# Altium schematic symbol library heromap.SchLib: 513 symbols (part 2 of 4)
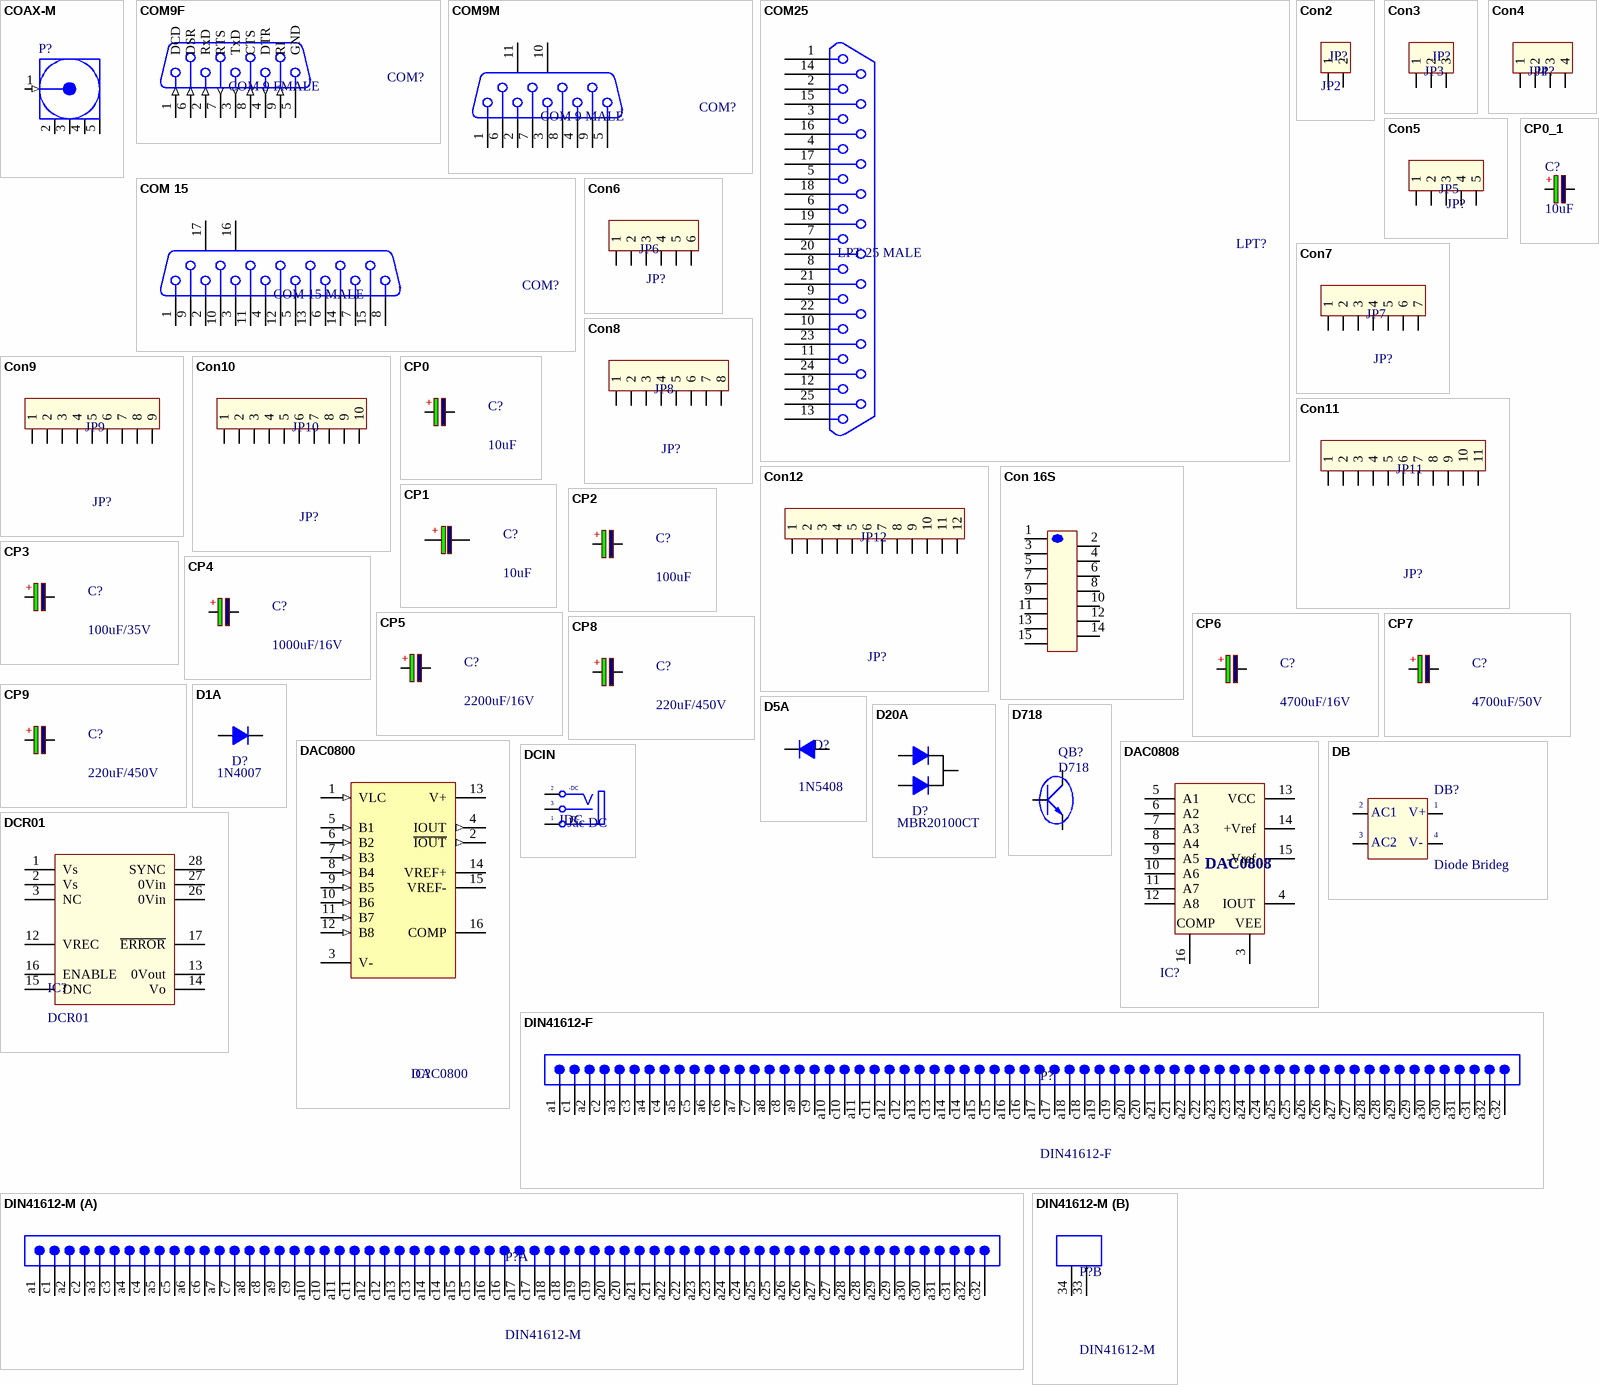
[diagram p20: symbols COAX-M to DIN41612-M]

## CP5
designator C?, comment 2200uF/16V
Cap 2200uF/16V - 1000uF/50V; Description 5: 47uF/200V - 22uF/350V - 400V - 10uF/450V; Description 1: 4700uF-6800uF/6,3V - 3300uF-4700uF/10V; Description 2: 2200uF-3300uF/16V - 470uF => 2200uF/25V; Description 3: 1000uF/35V-50V_470uF/63V_220uF>330uF/100V; Description 4: 47uF => 100uF/160V - 33uF-47uF/250V; Value: 2200uF/16V
footprint CP2/4 (Tu hoa 1000uF/16V/25V)
pins: 1, 2
text: +

## CP6
designator C?, comment 4700uF/16V
Cap 4700uF/16V - 2200uF/50V; Description 5: 100uF=>220uF/200V -100uF=>330uF/350V; Description 1: 10KuF=>22KuF/6,3V - 6800uF=>15KuF/10V; Description 2: 4700uF=>10KuF/16V - 3300uF => 6800uF/25V; Description 3: 2200uF=>3300uF/50V_1KuF=>2200uF/63V; Description 4: 470uF => 1KuF/100V - 220uF-470uF/160V; Value: 2200uF/16V; Description 6: 33uF=>100/350V-400V  -  22uF=>33uF/450V
footprint CP3/7 (Tu hoa 4700uF/25V)
pins: 1, 2
text: +

## CP7
designator C?, comment 4700uF/50V
Cap 4700uF/50V; Value: 4700uF/50V
footprint CP4/8.5 (Tu hoa 4700uF/50V)
pins: 1, 2
text: +

## CP8
designator C?, comment 220uF/450V
Cap 4700uF/50V; Value: 220uF/450V
footprint CP4/12 (Tu hoa 220uF/450V)
pins: 1, 2
text: +

## CP9
designator C?, comment 220uF/450V
Cap 10000uF/63V; Value: 220uF/450V
footprint CP4.5/19 (Tu hoa 10,000uF/63V)
pins: 1, 2
text: +

## D1A
designator D?, comment 1N4007
Diode 1A; Value: 1N4007
footprint D1A (Diode 1A, W 100mil, L 350mil)
footprint D2A (Diode 2A, W 150mil, L 450mil)
pins: 1 A, 2 K

## D5A
designator D?, comment 1N5408
Diode 5A; Value: 1N5408
footprint D5A (Diode 5A, W 200mil, L 550mil)
footprint D5AN (Diode 5A, W 200mil, L 250mil)
pins: 1 A, 2 K

## D20A
designator D?, comment MBR20100CT
Diode 20A,SCHOTTKY BARRIER  RECTIFIERS; Value: 1N4007
footprint QTO-220H1 (TO-220 - 1-2-3)
footprint D2A (Diode 2A, W 150mil, L 450mil)
pins: 1 A, 2 K, 3 A

## D718
designator QB?
Transistor Power Supply; Value: D718
footprint QTO-247 (TO-247 B688)
pins: 1 B, 2 C, 3 E

## DAC0800
designator IC?
8-Bit Digital-to-Analog Converter; Value: DAC0800
footprint TS5B_N (Footprint not found)
pins: 1 VLC (in), 2 ~{IOUT} (out), 3 V- (power), 4 IOUT (out), 5 B1 (in), 6 B2 (in), 7 B3 (in), 8 B4 (in), 9 B5 (in), 10 B6 (in), 11 B7 (in), 12 B8 (in), 13 V+ (power), 14 VREF+, 15 VREF-, 16 COMP

## DAC0808
designator IC?
8 Bits Digital Analog Convert; Value: DAC0808
footprint DIP16/W0.3 (16 PIN, W 300mil, Pin to pin 100mil)
pins: 2 GND (power) hidden to GND, 3 VEE, 4 IOUT, 5 A1, 6 A2, 7 A3, 8 A4, 9 A5, 10 A6, 11 A7, 12 A8, 13 VCC (power), 14 +Vref, 15 -Vref, 16 COMP
2 alternate drawings of the same symbol

## DB
designator DB?, comment Diode Brideg
DIODE BRIDGE; Value: Cau 1A
footprint CAU 1A (CAU 1A DET)
footprint CAU 5A (CAU 5A DET)
footprint Cau 10A (CAU 10A det)
footprint CAU 1AC (CAU 1A TRON)
footprint CAU 2A
pins: 1 +V OUT, 2 AC1, 3 AC2, 4 -V OUT
text: V+; V-

## DCIN
designator JDC, comment Jac DC
Jac DC input; Value: Jac DC
footprint DC-IN (Jac DC input)
pins: 1 T "Tip", 2 TN "Tip Normal (Break Contact)", 3 S (power) "Sleeve (Ground)"
text: -DC; +DC

## DCR01
designator IC?
Miniature, 1W Isolated  REGULATED DC/DC CONVERTERS
pins: 1 Vs, 2 Vs, 3 NC, 12 VREC, 13 0Vout, 14 Vo, 15 DNC, 16 ENABLE, 17 ~{ERROR}, 26 0Vin, 27 0Vin, 28 SYNC

## DIN41612-F
designator P?
Eurocard DIN 41612, Type C, 64 Position, Rows a+c, Performance level 1, Male, Lead 3.0 mm, Pitch 2.54 mm; DrillSize: Corresponds to nominal value.; Published: 6-Oct-2005; DatasheetDocument: 02-Jun-2003; PackageDocument: 03-Jul-2000; PackageReference: 0903164x922; Publisher: Altium Limited; ComponentLink1Description: Manufacturer Link; ComponentLink1URL: http://www.harting.com/; ComponentLink2Description: Packaging Specification; ComponentLink2URL: http://www.harkis.harting.com/_gds/pdf/TB_0903164x922_BL01_R27486.pdf
footprint DIN41612-F (Connector; DIN 41612, Type C, Thru-Hole; Rows a+c, 64 Position; Vertical; No Mounting Fixture)
signal-integrity model DIN 41612
pins: a1, a2, a3, a4, a5, a6, a7, a8, a9, a10, a11, a12, a13, a14, a15, a16, a17, a18, a19, a20, a21, a22, a23, a24, a25, a26, a27, a28, a29, a30, a31, a32, c1, c2, c3, c4, c5, c6, c7, c8, c9, c10, c11, c12, c13, c14, c15, c16, c17, c18, c19, c20, c21, c22, c23, c24, c25, c26, c27, c28, c29, c30, c31, c32

## DIN41612-M
designator P?
Eurocard DIN 41612, Type C, 62+2 Position, Rows a+c, Performance level 1, Male, Lead 3.0 mm, Pitch 2.54 mm; Note: Two leading contacts at positions a1 & a32.; DrillSize: Corresponds to nominal value.; Published: 6-Oct-2005; DatasheetDocument: 02-Jun-2003; PackageDocument: 18-May-2000; PackageReference: 0903164x951; Publisher: Altium Limited; ComponentLink1Description: Manufacturer Link; ComponentLink1URL: http://www.harting.com/; ComponentLink2Description: Packaging Specification; ComponentLink2URL: http://www.harkis.harting.com/_gds/pdf/TB_0903164x951_BL01_R27477.pdf
footprint DIN41612-M (Connector; DIN 41612, Type C, Thru-Hole; Rows a+c, 64 Position; Right Angle)
signal-integrity model DIN 41612
part A pins: a1, a2, a3, a4, a5, a6, a7, a8, a9, a10, a11, a12, a13, a14, a15, a16, a17, a18, a19, a20, a21, a22, a23, a24, a25, a26, a27, a28, a29, a30, a31, a32, c1, c2, c3, c4, c5, c6, c7, c8, c9, c10, c11, c12, c13, c14, c15, c16, c17, c18, c19, c20, c21, c22, c23, c24, c25, c26, c27, c28, c29, c30, c31, c32
part B pins: 33 MH1 "Mounting Fixture", 34 MH2 "Mounting Fixture"

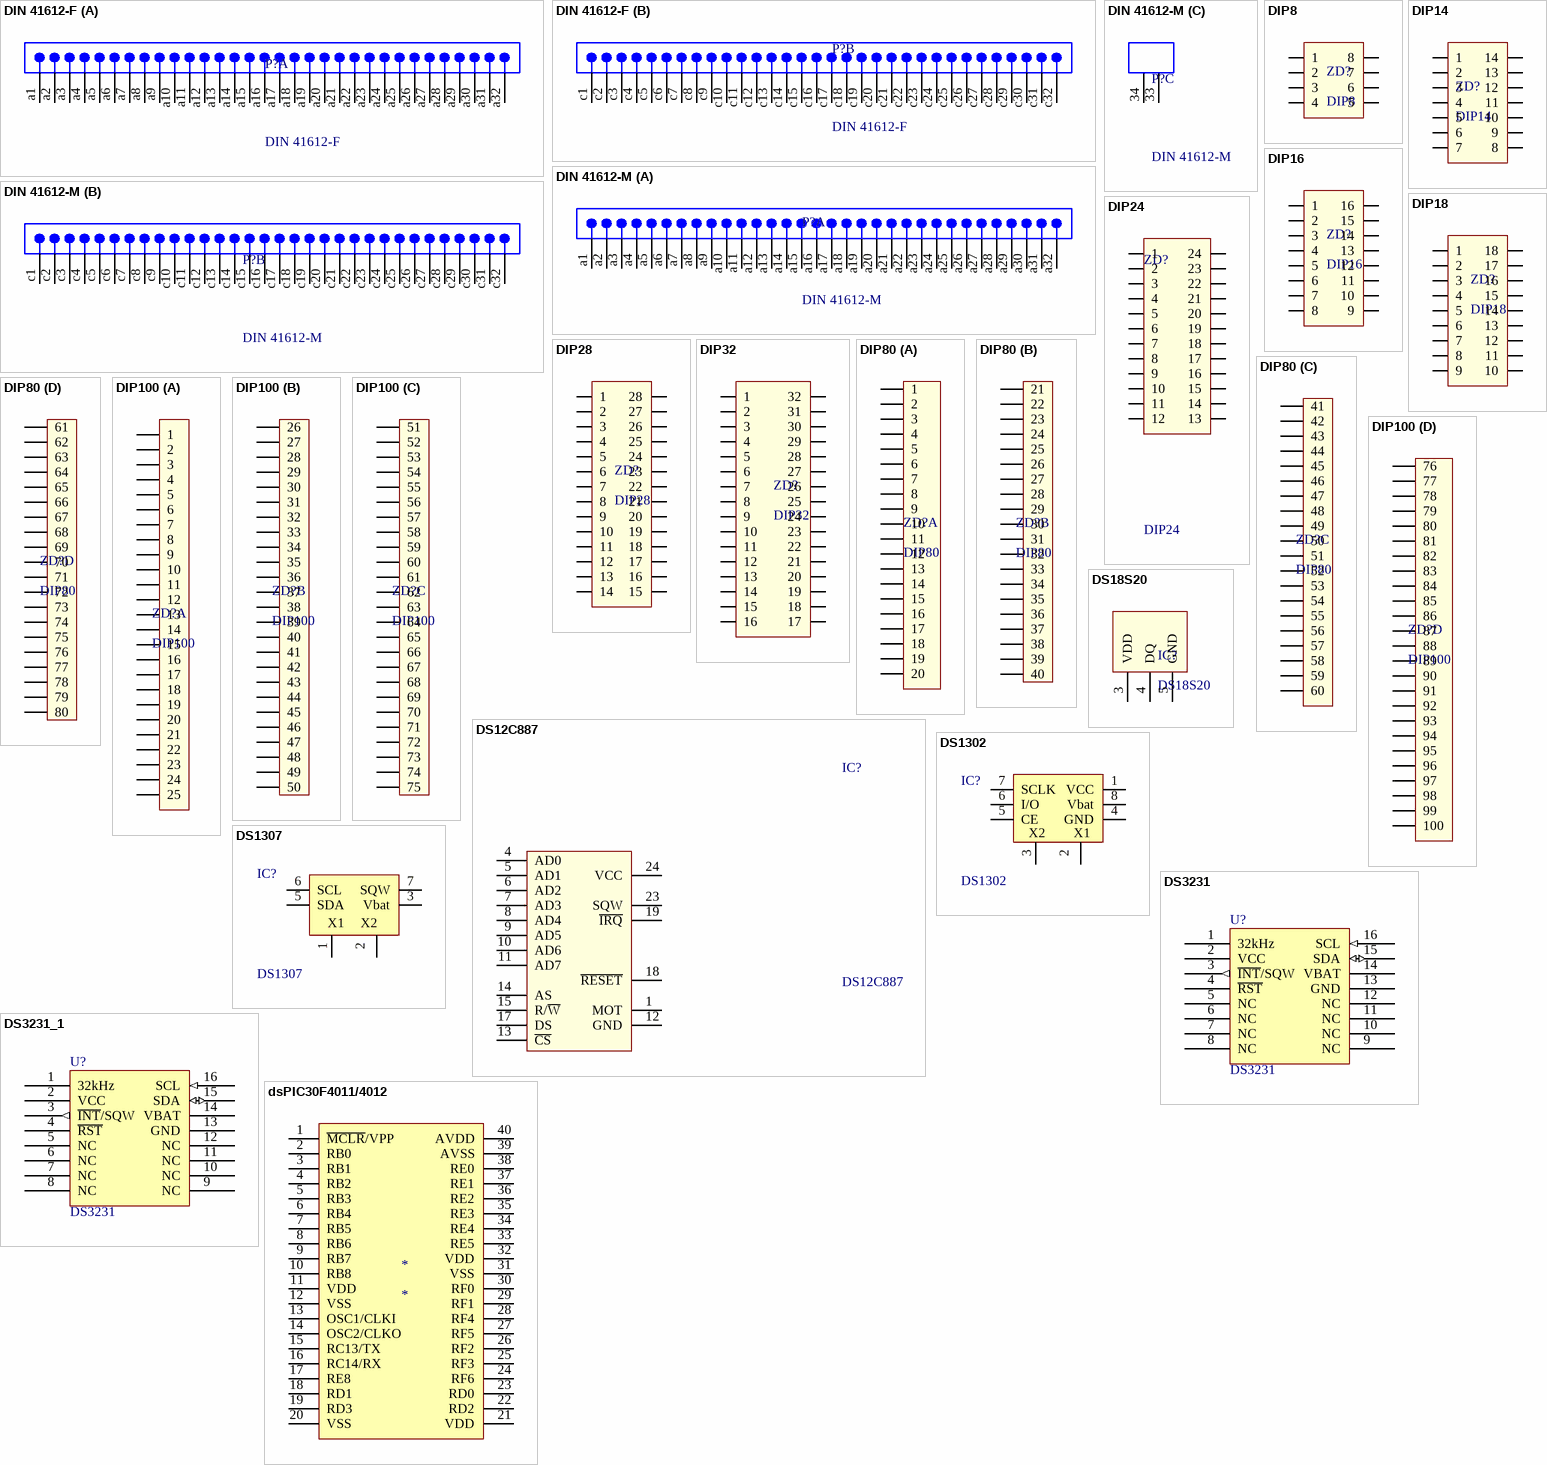
[diagram p6: symbols DIN 41612-F to dsPIC30F4011/4012]

## DIN 41612-F
designator P?
Eurocard DIN 41612, Type C, 64 Position, Rows a+c, Performance level 1, Male, Lead 3.0 mm, Pitch 2.54 mm; DrillSize: Corresponds to nominal value.; Published: 6-Oct-2005; DatasheetDocument: 02-Jun-2003; PackageDocument: 03-Jul-2000; PackageReference: 0903164x922; Publisher: Altium Limited; ComponentLink1Description: Manufacturer Link; ComponentLink1URL: http://www.harting.com/; ComponentLink2Description: Packaging Specification; ComponentLink2URL: http://www.harkis.harting.com/_gds/pdf/TB_0903164x922_BL01_R27486.pdf
footprint DIN41612-F (Connector; DIN 41612, Type C, Thru-Hole; Rows a+c, 64 Position; Vertical; No Mounting Fixture)
signal-integrity model DIN 41612
part A pins: a1, a2, a3, a4, a5, a6, a7, a8, a9, a10, a11, a12, a13, a14, a15, a16, a17, a18, a19, a20, a21, a22, a23, a24, a25, a26, a27, a28, a29, a30, a31, a32
part B pins: c1, c2, c3, c4, c5, c6, c7, c8, c9, c10, c11, c12, c13, c14, c15, c16, c17, c18, c19, c20, c21, c22, c23, c24, c25, c26, c27, c28, c29, c30, c31, c32

## DIN 41612-M
designator P?
Eurocard DIN 41612, Type C, 62+2 Position, Rows a+c, Performance level 1, Male, Lead 3.0 mm, Pitch 2.54 mm; Note: Two leading contacts at positions a1 & a32.; DrillSize: Corresponds to nominal value.; Published: 6-Oct-2005; DatasheetDocument: 02-Jun-2003; PackageDocument: 18-May-2000; PackageReference: 0903164x951; Publisher: Altium Limited; ComponentLink1Description: Manufacturer Link; ComponentLink1URL: http://www.harting.com/; ComponentLink2Description: Packaging Specification; ComponentLink2URL: http://www.harkis.harting.com/_gds/pdf/TB_0903164x951_BL01_R27477.pdf
footprint DIN41612-M (Connector; DIN 41612, Type C, Thru-Hole; Rows a+c, 64 Position; Right Angle)
signal-integrity model DIN 41612
part A pins: a1, a2, a3, a4, a5, a6, a7, a8, a9, a10, a11, a12, a13, a14, a15, a16, a17, a18, a19, a20, a21, a22, a23, a24, a25, a26, a27, a28, a29, a30, a31, a32
part B pins: c1, c2, c3, c4, c5, c6, c7, c8, c9, c10, c11, c12, c13, c14, c15, c16, c17, c18, c19, c20, c21, c22, c23, c24, c25, c26, c27, c28, c29, c30, c31, c32
part C pins: 33 MH1 "Mounting Fixture", 34 MH2 "Mounting Fixture"

## DIP8
designator ZD?
Value: DIP8
footprint DIP8/W0.3 (8 PIN, W 300mil, Pin to pin 100mil)
3D model DIP8 (PCB3D Model)
pins: 1, 2, 3, 4, 5, 6, 7, 8

## DIP14
designator ZD?
Value: DIP14
footprint DIP14/w0.3 (14PIN, W 300mil, Pin to pin 100mil)
3D model DIP14 (PCB3D Model)
pins: 1, 2, 3, 4, 5, 6, 7, 8, 9, 10, 11, 12, 13, 14

## DIP16
designator ZD?
Value: DIP16
footprint DIP16/W0.3 (16 PIN, W 300mil, Pin to pin 100mil)
3D model DIP16 (PCB3D Model)
pins: 1, 2, 3, 4, 5, 6, 7, 8, 9, 10, 11, 12, 13, 14, 15, 16

## DIP18
designator ZD?
Value: DIP18
footprint DIP18/W0.3 (18 PIN, W 300mil, Pin to pin 100mil)
3D model DIP18 (PCB3D Model)
pins: 1, 2, 3, 4, 5, 6, 7, 8, 9, 10, 11, 12, 13, 14, 15, 16, 17, 18

## DIP24
designator ZD?
Value: DIP24
footprint DIP24/W0.3 (DIP24/W.300, Pin to pin 100mil)
3D model DIP24 (PCB3D Model)
pins: 1, 2, 3, 4, 5, 6, 7, 8, 9, 10, 11, 12, 13, 14, 15, 16, 17, 18, 19, 20, 21, 22, 23, 24

## DIP28
designator ZD?
Value: DIP28
footprint DIP28/W0.3 (28 PIN, W 300mil, Pin to pin 100mil)
3D model DIP28 (PCB3D Model)
pins: 1, 2, 3, 4, 5, 6, 7, 8, 9, 10, 11, 12, 13, 14, 15, 16, 17, 18, 19, 20, 21, 22, 23, 24, 25, 26, 27, 28

## DIP32
designator ZD?
Value: ZIP32
footprint ZIP32 (32 PIN, W 900 mil , L 2200 mil , Push Pro FOR Chip)
3D model DIP32 (PCB3D Model)
pins: 1, 2, 3, 4, 5, 6, 7, 8, 9, 10, 11, 12, 13, 14, 15, 16, 17, 18, 19, 20, 21, 22, 23, 24, 25, 26, 27, 28, 29, 30, 31, 32

## DIP80
designator ZD?
Value: DIP80
footprint DIP80_2M (DIP80, P - P 200)
footprint TQFP-80 (Thin QFP, 80-Leads, Body 12x12mm, Pitch 0.5mm, IPC Low Density)
part A pins: 1, 2, 3, 4, 5, 6, 7, 8, 9, 10, 11, 12, 13, 14, 15, 16, 17, 18, 19, 20
part B pins: 21, 22, 23, 24, 25, 26, 27, 28, 29, 30, 31, 32, 33, 34, 35, 36, 37, 38, 39, 40
part C pins: 41, 42, 43, 44, 45, 46, 47, 48, 49, 50, 51, 52, 53, 54, 55, 56, 57, 58, 59, 60
part D pins: 61, 62, 63, 64, 65, 66, 67, 68, 69, 70, 71, 72, 73, 74, 75, 76, 77, 78, 79, 80

## DIP100
designator ZD?
Value: DIP100
footprint DIP100_2M (DIP100 - P-P 2mm)
footprint TQFP-100 (Footprint not found)
part A pins: 1, 2, 3, 4, 5, 6, 7, 8, 9, 10, 11, 12, 13, 14, 15, 16, 17, 18, 19, 20, 21, 22, 23, 24, 25
part B pins: 26, 27, 28, 29, 30, 31, 32, 33, 34, 35, 36, 37, 38, 39, 40, 41, 42, 43, 44, 45, 46, 47, 48, 49, 50
part C pins: 51, 52, 53, 54, 55, 56, 57, 58, 59, 60, 61, 62, 63, 64, 65, 66, 67, 68, 69, 70, 71, 72, 73, 74, 75
part D pins: 76, 77, 78, 79, 80, 81, 82, 83, 84, 85, 86, 87, 88, 89, 90, 91, 92, 93, 94, 95, 96, 97, 98, 99, 100

## DS12C887
designator IC?
Real Timer Parallel; Value: DS12C887
footprint DIP24/W0.6 (DIP24/W.600, Pin to pin 100mil)
3D model DIP24/W0.6 (PCB3D Model)
pins: 1 MOT, 4 AD0, 5 AD1, 6 AD2, 7 AD3, 8 AD4, 9 AD5, 10 AD6, 11 AD7, 12 GND, 13 ~{CS}, 14 AS, 15 R/~{W}, 17 DS, 18 ~{RESET}, 19 ~{IRQ}, 23 SQW, 24 VCC

## DS18S20
designator IC?
High Precision  1-Wire® Digital Thermometer
footprint DIP8/W0.3 (8 PIN, W 300mil, Pin to pin 100mil)
footprint DS18S20 (TO-92)
pins: 3 VDD, 4 DQ, 5 GND

## DS1302
designator IC?
Real Timer Serial - 2=>5V; Value: DS1307
footprint DIP8/W0.3 (8 PIN, W 300mil, Pin to pin 100mil)
3D model DIP8 (PCB3D Model)
footprint SO-8 (8-Pin Small Outline Integrated Circuit 1.27 mm Pitch, IPC Medium Density)
pins: 1 VCC, 2 X1, 3 X2, 4 GND, 5 CE, 6 I/O, 7 SCLK, 8 Vbat

## DS1307
designator IC?
Real Timer Serial; Value: DS1307
footprint DIP8/W0.3 (8 PIN, W 300mil, Pin to pin 100mil)
3D model DIP8 (PCB3D Model)
pins: 1 X1, 2 X2, 3 Vbat, 4 GND hidden to GND, 5 SDA, 6 SCL, 7 SQW, 8 VCC hidden to VCC

## DS3231
designator U?
footprint SL3016 (SOIC, 16-Leads, Body 10.3x7.5mm (max), Pitch 1.27mm, IPC Medium Density)
pins: 1 32kHz, 2 VCC, 3 ~{INT}/SQW (out), 4 ~{RST}, 5 NC, 6 NC, 7 NC, 8 NC, 9 NC, 10 NC, 11 NC, 12 NC, 13 GND, 14 VBAT, 15 SDA (io), 16 SCL (in)

## DS3231_1
designator U?, comment DS3231
footprint SL3016 (SOIC, 16-Leads, Body 10.3x7.5mm (max), Pitch 1.27mm, IPC Medium Density)
pins: 1 32kHz, 2 VCC, 3 ~{INT}/SQW (out), 4 ~{RST}, 5 NC, 6 NC, 7 NC, 8 NC, 9 NC, 10 NC, 11 NC, 12 NC, 13 GND, 14 VBAT, 15 SDA (io), 16 SCL (in)

## dsPIC30F4011/4012
designator *
footprint DIP40/W0.6 (40 PIN, W 600mil, Pin to pin 100mil)
pins: 1 ~{MCLR}/VPP, 2 RB0, 3 RB1, 4 RB2, 5 RB3, 6 RB4, 7 RB5, 8 RB6, 9 RB7, 10 RB8, 11 VDD, 12 VSS, 13 OSC1/CLKI, 14 OSC2/CLKO, 15 RC13/TX, 16 RC14/RX, 17 RE8, 18 RD1, 19 RD3, 20 VSS, 21 VDD, 22 RD2, 23 RD0, 24 RF6, 25 RF3, 26 RF2, 27 RF5, 28 RF4, 29 RF1, 30 RF0, 31 VSS, 32 VDD, 33 RE5, 34 RE4, 35 RE3, 36 RE2, 37 RE1, 38 RE0, 39 AVSS, 40 AVDD

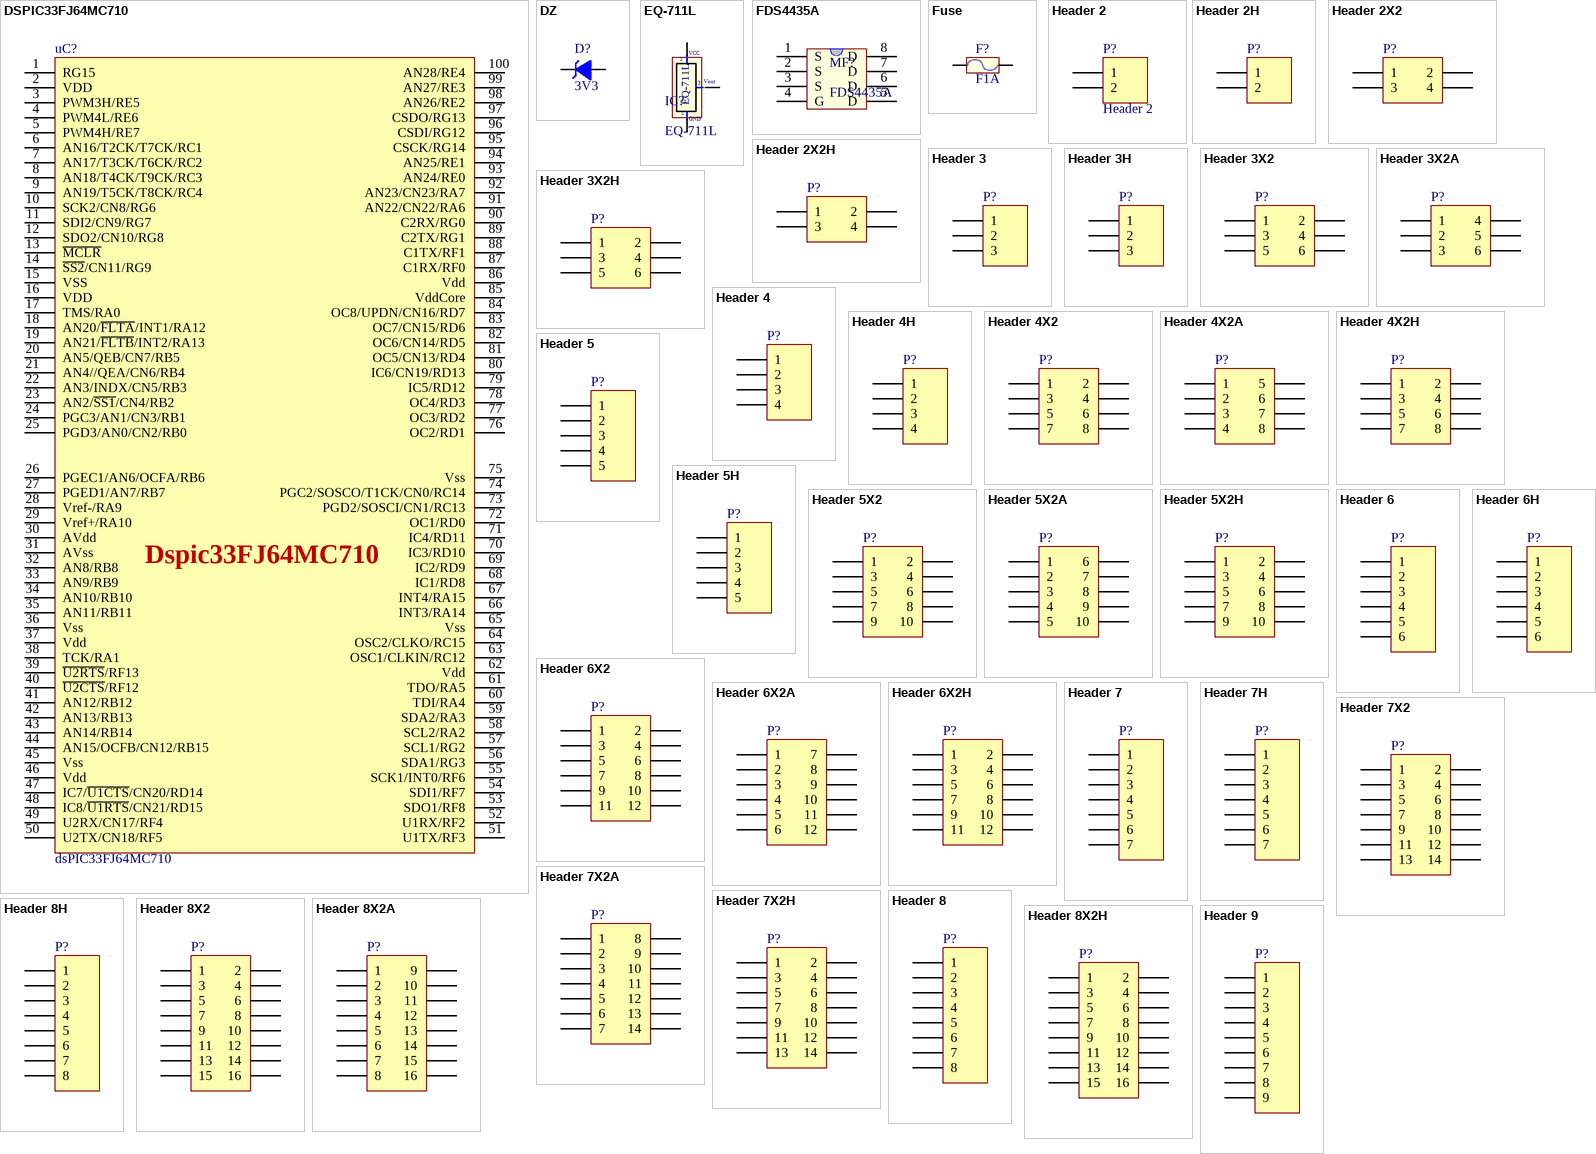
[diagram p7: symbols DSPIC33FJ64MC710 to Header 9]

## DSPIC33FJ64MC710
designator uC?, comment dsPIC33FJ64MC710
dsPIC33FJ64/128/256_MC710
footprint SQFP12X12-100(N)
footprint SQFP14X14-100(N) (Footprint not found)
footprint TQFP-100-12X12 (Shrink QFP, 100-Leads, Body 12x12mm, Pitch 0.4mm, IPC High Density)
pins: 1 RG15, 2 VDD, 3 PWM3H/RE5, 4 PWM4L/RE6, 5 PWM4H/RE7, 6 AN16/T2CK/T7CK/RC1, 7 AN17/T3CK/T6CK/RC2, 8 AN18/T4CK/T9CK/RC3, 9 AN19/T5CK/T8CK/RC4, 10 SCK2/CN8/RG6, 11 SDI2/CN9/RG7, 12 SDO2/CN10/RG8, 13 ~{MCLR}, 14 ~{SS2}/CN11/RG9, 15 VSS, 16 VDD, 17 TMS/RA0, 18 AN20/~{FLTA}/INT1/RA12, 19 AN21/~{FLTB}/INT2/RA13, 20 AN5/QEB/CN7/RB5, 21 AN4//QEA/CN6/RB4, 22 AN3/INDX/CN5/RB3, 23 AN2/~{SS1}/CN4/RB2, 24 PGC3/AN1/CN3/RB1, 25 PGD3/AN0/CN2/RB0, 26 PGEC1/AN6/OCFA/RB6, 27 PGED1/AN7/RB7, 28 Vref-/RA9, 29 Vref+/RA10, 30 AVdd, 31 AVss, 32 AN8/RB8, 33 AN9/RB9, 34 AN10/RB10, 35 AN11/RB11, 36 Vss, 37 Vdd, 38 TCK/RA1, 39 ~{U2RTS}/RF13, 40 ~{U2CTS}/RF12, 41 AN12/RB12, 42 AN13/RB13, 43 AN14/RB14, 44 AN15/OCFB/CN12/RB15, 45 Vss, 46 Vdd, 47 IC7/~{U1CTS}/CN20/RD14, 48 IC8/~{U1RTS}/CN21/RD15, 49 U2RX/CN17/RF4, 50 U2TX/CN18/RF5, 51 U1TX/RF3, 52 U1RX/RF2, 53 SDO1/RF8, 54 SDI1/RF7, 55 SCK1/INT0/RF6, 56 SDA1/RG3, 57 SCL1/RG2, 58 SCL2/RA2, 59 SDA2/RA3, 60 TDI/RA4, 61 TDO/RA5, 62 Vdd, 63 OSC1/CLKIN/RC12, 64 OSC2/CLKO/RC15, 65 Vss, 66 INT3/RA14, 67 INT4/RA15, 68 IC1/RD8, 69 IC2/RD9, 70 IC3/RD10, 71 IC4/RD11, 72 OC1/RD0, 73 PGD2/SOSCI/CN1/RC13, 74 PGC2/SOSCO/T1CK/CN0/RC14, 75 Vss, 76 OC2/RD1, 77 OC3/RD2, 78 OC4/RD3, 79 IC5/RD12, 80 IC6/CN19/RD13, 81 OC5/CN13/RD4, 82 OC6/CN14/RD5, 83 OC7/CN15/RD6, 84 OC8/UPDN/CN16/RD7, 85 VddCore, 86 Vdd, 87 C1RX/RF0, 88 C1TX/RF1, 89 C2TX/RG1, 90 C2RX/RG0, 91 AN22/CN22/RA6, 92 AN23/CN23/RA7, 93 AN24/RE0, 94 AN25/RE1, 95 CSCK/RG14, 96 CSDI/RG12, 97 CSDO/RG13, 98 AN26/RE2, 99 AN27/RE3, 100 AN28/RE4
text: Dspic33FJ64MC710

## DZ
designator D?, comment 3V3
Diode Zenner; Value: 3v3
footprint DZ0.5A (Diode Zenner, W 80mil, L 300mil)
footprint DZ5A (Diode 5A, W 200mil, L 550mil)
footprint DZ1A (Diode 1A, W 100mil, L 350mil)
footprint DZ2A (Diode 2A, W 150mil, L 450mil)
pins: 1 A, 2 K

## EQ-711L
designator IC?
Hybrid Linear Hall Effect Ics
footprint EQ-711L (TO-92)
pins: 1 VCC (power), 2 GND (power), 3 OUT
text: Vout

## FDS4435A
designator MF?
P-Channel Logic Level PowerTrench MOSFET; Value: FDS4435
footprint SO-8 (8-Pin Small Outline Integrated Circuit 1.27 mm Pitch, IPC Medium Density)
footprint DIP8/w0.3 (8 PIN, W 300mil, Pin to pin 100mil)
pins: 1 S, 2 S, 3 S, 4 G, 5 D, 6 D, 7 D, 8 D

## Fuse
designator F?, comment F1A
Fuse; Designed by: VanDungEvn; Value: Fuse
footprint Fuse (De Fuse)
footprint FUSE1 (De Fuse Box)
footprint FUSE2 (Fuse)
footprint PTC (PTC protec over curent)
pins: 1, 2

## Header 2
designator P?
Header, 2-Pin; LatestRevisionDate: 17-Jul-2002; LatestRevisionNote: Re-released for DXP Platform.; Publisher: Altium Limited
footprint HDR1X2 (Connector; Header; 2 Position)
pins: 1, 2

## Header 2H
designator P?
Header, 2-Pin, Right Angle; LatestRevisionDate: 17-Jul-2002; LatestRevisionNote: Re-released for DXP Platform.; Publisher: Altium Limited
footprint HDR1X2H (Connector; Header; 2 Position; Right Angle)
pins: 1, 2

## Header 2X2
designator P?
Header, 2-Pin, Dual row; LatestRevisionDate: 17-Jul-2002; LatestRevisionNote: Re-released for DXP Platform.; Publisher: Altium Limited
footprint HDR2X2 (Connector; Header; 2x2 Position)
pins: 1, 2, 3, 4

## Header 2X2H
designator P?
Header, 2-Pin, Dual row, Right Angle; LatestRevisionDate: 17-Jul-2002; LatestRevisionNote: Re-released for DXP Platform.; Publisher: Altium Limited
footprint HDR2X2H (Connector; Header; 2x2 Position; Right Angle)
pins: 1, 2, 3, 4

## Header 3
designator P?
Header, 3-Pin; LatestRevisionDate: 17-Jul-2002; LatestRevisionNote: Re-released for DXP Platform.; Publisher: Altium Limited
footprint HDR1X3 (Connector; Header; 3 Position)
pins: 1, 2, 3

## Header 3H
designator P?
Header, 3-Pin, Right Angle; LatestRevisionDate: 17-Jul-2002; LatestRevisionNote: Re-released for DXP Platform.; Publisher: Altium Limited
footprint HDR1X3H (Connector; Header; 3 Position; Right Angle)
pins: 1, 2, 3

## Header 3X2
designator P?
Header, 3-Pin, Dual row; LatestRevisionDate: 17-Jul-2002; LatestRevisionNote: Re-released for DXP Platform.; Publisher: Altium Limited
footprint HDR2X3 (Connector; Header; 3x2 Position)
pins: 1, 2, 3, 4, 5, 6

## Header 3X2A
designator P?
Header, 3-Pin, Dual row; LatestRevisionDate: 17-Jul-2002; LatestRevisionNote: Re-released for DXP Platform.; Publisher: Altium Limited
footprint HDR2X3_CEN (Connector; Header; 3x2 Position)
pins: 1, 2, 3, 4, 5, 6

## Header 3X2H
designator P?
Header, 3-Pin, Dual row, Right Angle; LatestRevisionDate: 17-Jul-2002; LatestRevisionNote: Re-released for DXP Platform.; Publisher: Altium Limited
footprint HDR2X3H (Connector; Header; 3x2 Position; Right Angle)
pins: 1, 2, 3, 4, 5, 6

## Header 4
designator P?
Header, 4-Pin; LatestRevisionDate: 17-Jul-2002; LatestRevisionNote: Re-released for DXP Platform.; Publisher: Altium Limited
footprint HDR1X4 (Connector; Header; 4 Position)
pins: 1, 2, 3, 4

## Header 4H
designator P?
Header, 4-Pin, Right Angle; LatestRevisionDate: 17-Jul-2002; LatestRevisionNote: Re-released for DXP Platform.; Publisher: Altium Limited
footprint HDR1X4H (Connector; Header; 4 Position; Right Angle)
pins: 1, 2, 3, 4

## Header 4X2
designator P?
Header, 4-Pin, Dual row; LatestRevisionDate: 17-Jul-2002; LatestRevisionNote: Re-released for DXP Platform.; Publisher: Altium Limited
footprint HDR2X4 (Connector; Header; 4x2 Position)
pins: 1, 2, 3, 4, 5, 6, 7, 8

## Header 4X2A
designator P?
Header, 4-Pin, Dual row; LatestRevisionDate: 17-Jul-2002; LatestRevisionNote: Re-released for DXP Platform.; Publisher: Altium Limited
footprint HDR2X4_CEN (Connector; Header; 4x2 Position)
pins: 1, 2, 3, 4, 5, 6, 7, 8

## Header 4X2H
designator P?
Header, 4-Pin, Dual row, Right Angle; LatestRevisionDate: 17-Jul-2002; LatestRevisionNote: Re-released for DXP Platform.; Publisher: Altium Limited
footprint HDR2X4H (Connector; Header; 4x2 Position; Right Angle)
pins: 1, 2, 3, 4, 5, 6, 7, 8

## Header 5
designator P?
Header, 5-Pin; LatestRevisionDate: 17-Jul-2002; LatestRevisionNote: Re-released for DXP Platform.; Publisher: Altium Limited
footprint HDR1X5 (Connector; Header; 5 Position)
pins: 1, 2, 3, 4, 5

## Header 5H
designator P?
Header, 5-Pin, Right Angle; LatestRevisionDate: 17-Jul-2002; LatestRevisionNote: Re-released for DXP Platform.; Publisher: Altium Limited
footprint HDR1X5H (Connector; Header; 5 Position; Right Angle)
pins: 1, 2, 3, 4, 5

## Header 5X2
designator P?
Header, 5-Pin, Dual row; LatestRevisionDate: 17-Jul-2002; LatestRevisionNote: Re-released for DXP Platform.; Publisher: Altium Limited
footprint HDR2X5 (Connector; Header; 5x2 Position)
pins: 1, 2, 3, 4, 5, 6, 7, 8, 9, 10

## Header 5X2A
designator P?
Header, 5-Pin, Dual row; LatestRevisionDate: 17-Jul-2002; LatestRevisionNote: Re-released for DXP Platform.; Publisher: Altium Limited
footprint HDR2X5_CEN (Connector; Header; 5x2 Position)
pins: 1, 2, 3, 4, 5, 6, 7, 8, 9, 10

## Header 5X2H
designator P?
Header, 5-Pin, Dual row, Right Angle; LatestRevisionDate: 17-Jul-2002; LatestRevisionNote: Re-released for DXP Platform.; Publisher: Altium Limited
footprint HDR2X5H (Connector; Header; 5x2 Position; Right Angle)
pins: 1, 2, 3, 4, 5, 6, 7, 8, 9, 10

## Header 6
designator P?
Header, 6-Pin; LatestRevisionDate: 17-Jul-2002; LatestRevisionNote: Re-released for DXP Platform.; Publisher: Altium Limited
footprint HDR1X6 (Connector; Header; 6 Position)
pins: 1, 2, 3, 4, 5, 6

## Header 6H
designator P?
Header, 6-Pin, Right Angle; LatestRevisionDate: 17-Jul-2002; LatestRevisionNote: Re-released for DXP Platform.; Publisher: Altium Limited
footprint HDR1X6H (Connector; Header; 6 Position; Right Angle)
pins: 1, 2, 3, 4, 5, 6

## Header 6X2
designator P?
Header, 6-Pin, Dual row; LatestRevisionDate: 17-Jul-2002; LatestRevisionNote: Re-released for DXP Platform.; Publisher: Altium Limited
footprint HDR2X6 (Connector; Header; 6x2 Position)
pins: 1, 2, 3, 4, 5, 6, 7, 8, 9, 10, 11, 12

## Header 6X2A
designator P?
Header, 6-Pin, Dual row; LatestRevisionDate: 17-Jul-2002; LatestRevisionNote: Re-released for DXP Platform.; Publisher: Altium Limited
footprint HDR2X6_CEN (Connector; Header; 6x2 Position)
pins: 1, 2, 3, 4, 5, 6, 7, 8, 9, 10, 11, 12

## Header 6X2H
designator P?
Header, 6-Pin, Dual row, Right Angle; LatestRevisionDate: 17-Jul-2002; LatestRevisionNote: Re-released for DXP Platform.; Publisher: Altium Limited
footprint HDR2X6H (Connector; Header; 6x2 Position; Right Angle)
pins: 1, 2, 3, 4, 5, 6, 7, 8, 9, 10, 11, 12

## Header 7
designator P?
Header, 7-Pin; LatestRevisionDate: 17-Jul-2002; LatestRevisionNote: Re-released for DXP Platform.; Publisher: Altium Limited
footprint HDR1X7 (Connector; Header; 7 Position)
pins: 1, 2, 3, 4, 5, 6, 7

## Header 7H
designator P?
Header, 7-Pin, Right Angle; LatestRevisionDate: 17-Jul-2002; LatestRevisionNote: Re-released for DXP Platform.; Publisher: Altium Limited
footprint HDR1X7H (Connector; Header; 7 Position; Right Angle)
pins: 1, 2, 3, 4, 5, 6, 7

## Header 7X2
designator P?
Header, 7-Pin, Dual row; LatestRevisionDate: 17-Jul-2002; LatestRevisionNote: Re-released for DXP Platform.; Publisher: Altium Limited
footprint HDR2X7 (Connector; Header; 7x2 Position)
pins: 1, 2, 3, 4, 5, 6, 7, 8, 9, 10, 11, 12, 13, 14

## Header 7X2A
designator P?
Header, 7-Pin, Dual row; LatestRevisionDate: 17-Jul-2002; LatestRevisionNote: Re-released for DXP Platform.; Publisher: Altium Limited
footprint HDR2X7_CEN (Connector; Header; 7x2 Position)
pins: 1, 2, 3, 4, 5, 6, 7, 8, 9, 10, 11, 12, 13, 14

## Header 7X2H
designator P?
Header, 7-Pin, Dual row, Right Angle; LatestRevisionDate: 17-Jul-2002; LatestRevisionNote: Re-released for DXP Platform.; Publisher: Altium Limited
footprint HDR2X7H (Connector; Header; 7x2 Position; Right Angle)
pins: 1, 2, 3, 4, 5, 6, 7, 8, 9, 10, 11, 12, 13, 14

## Header 8
designator P?
Header, 8-Pin; LatestRevisionDate: 17-Jul-2002; LatestRevisionNote: Re-released for DXP Platform.; Publisher: Altium Limited
footprint HDR1X8 (Connector; Header; 8 Position)
pins: 1, 2, 3, 4, 5, 6, 7, 8

## Header 8H
designator P?
Header, 8-Pin, Right Angle; LatestRevisionDate: 17-Jul-2002; LatestRevisionNote: Re-released for DXP Platform.; Publisher: Altium Limited
footprint HDR1X8H (Connector; Header; 8 Position; Right Angle)
pins: 1, 2, 3, 4, 5, 6, 7, 8

## Header 8X2
designator P?
Header, 8-Pin, Dual row; LatestRevisionDate: 17-Jul-2002; LatestRevisionNote: Re-released for DXP Platform.; Publisher: Altium Limited
footprint HDR2X8 (Connector; Header; 8x2 Position)
pins: 1, 2, 3, 4, 5, 6, 7, 8, 9, 10, 11, 12, 13, 14, 15, 16

## Header 8X2A
designator P?
Header, 8-Pin, Dual row; LatestRevisionDate: 17-Jul-2002; LatestRevisionNote: Re-released for DXP Platform.; Publisher: Altium Limited
footprint HDR2X8_CEN (Connector; Header; 8x2 Position)
pins: 1, 2, 3, 4, 5, 6, 7, 8, 9, 10, 11, 12, 13, 14, 15, 16

## Header 8X2H
designator P?
Header, 8-Pin, Dual row, Right Angle; LatestRevisionDate: 17-Jul-2002; LatestRevisionNote: Re-released for DXP Platform.; Publisher: Altium Limited
footprint HDR2X8H (Connector; Header; 8x2 Position; Right Angle)
pins: 1, 2, 3, 4, 5, 6, 7, 8, 9, 10, 11, 12, 13, 14, 15, 16

## Header 9
designator P?
Header, 9-Pin; LatestRevisionDate: 17-Jul-2002; LatestRevisionNote: Re-released for DXP Platform.; Publisher: Altium Limited
footprint HDR1X9 (Connector; Header; 9 Position)
pins: 1, 2, 3, 4, 5, 6, 7, 8, 9

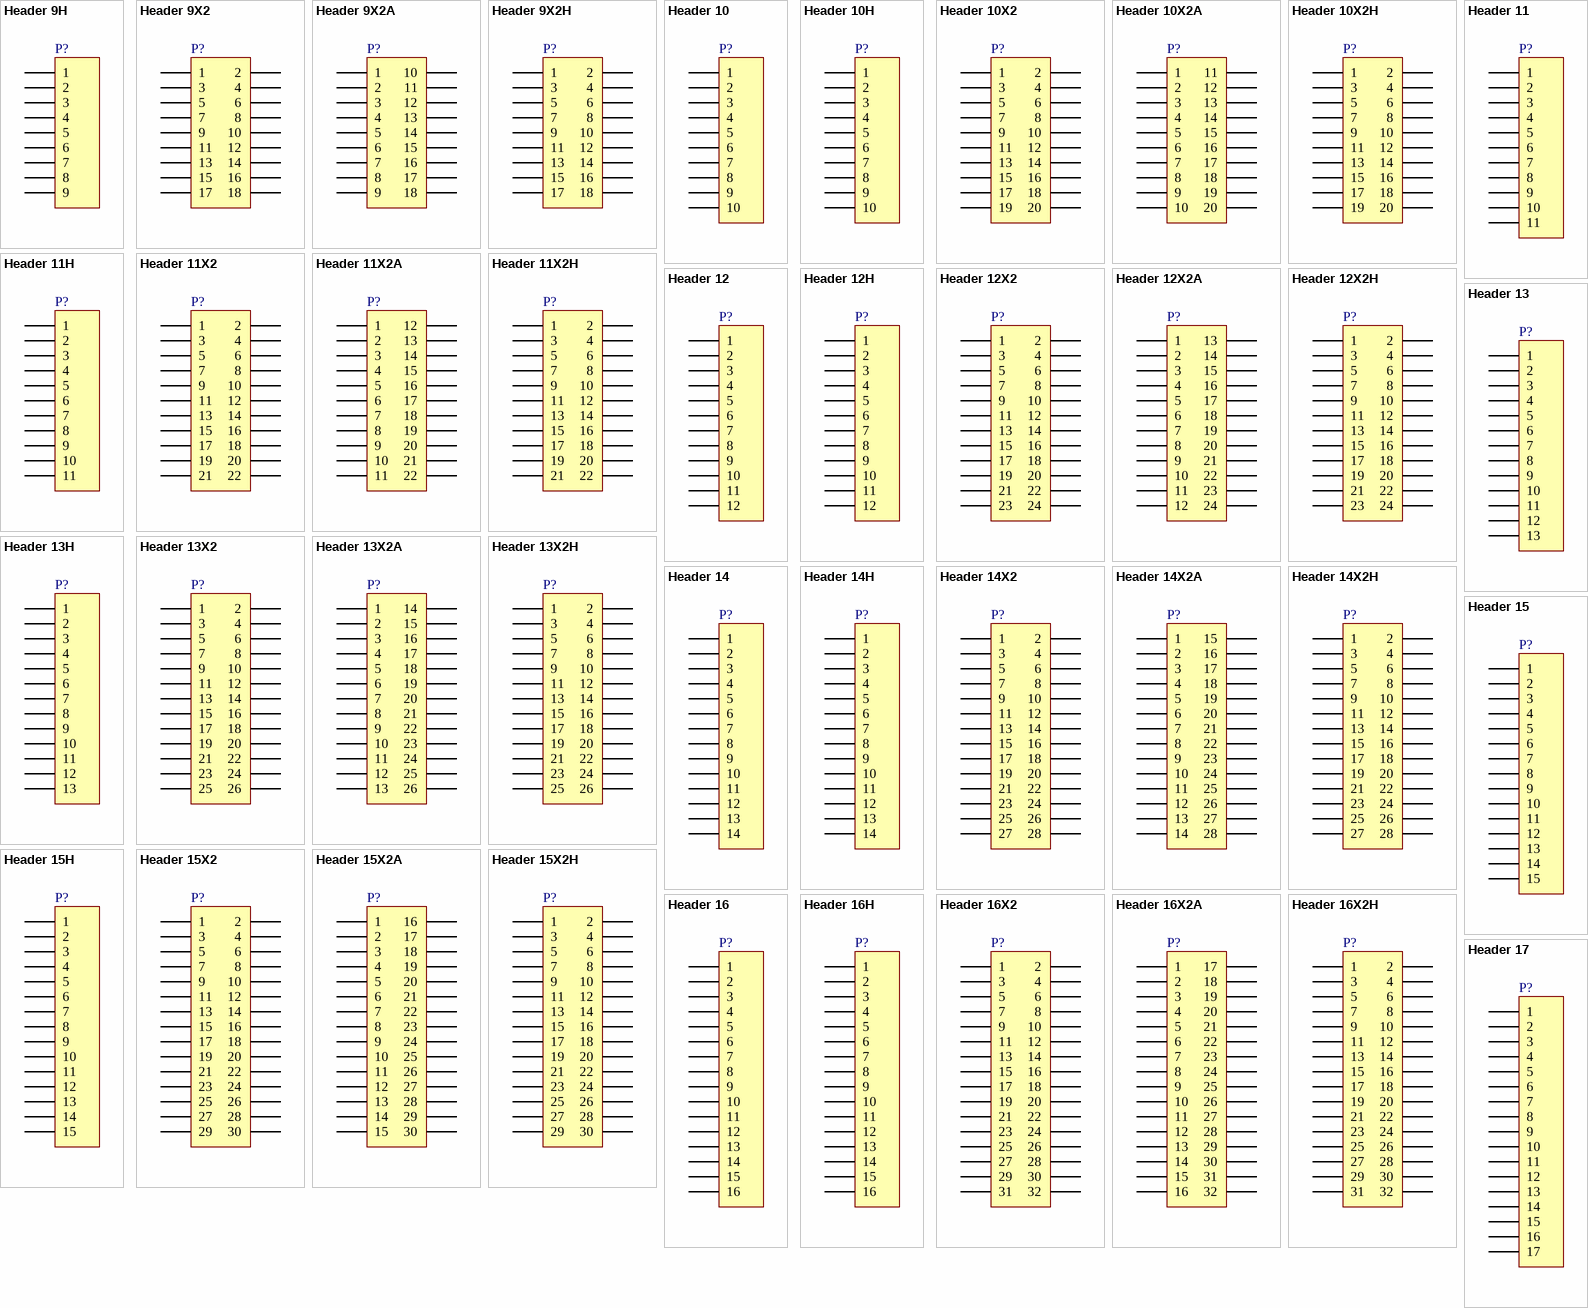
[diagram p8: symbols Header 9H to Header 17]

## Header 9H
designator P?
Header, 9-Pin, Right Angle; LatestRevisionDate: 17-Jul-2002; LatestRevisionNote: Re-released for DXP Platform.; Publisher: Altium Limited
footprint HDR1X9H (Connector; Header; 9 Position; Right Angle)
pins: 1, 2, 3, 4, 5, 6, 7, 8, 9

## Header 9X2
designator P?
Header, 9-Pin, Dual row; LatestRevisionDate: 17-Jul-2002; LatestRevisionNote: Re-released for DXP Platform.; Publisher: Altium Limited
footprint HDR2X9 (Connector; Header; 9x2 Position)
pins: 1, 2, 3, 4, 5, 6, 7, 8, 9, 10, 11, 12, 13, 14, 15, 16, 17, 18

## Header 9X2A
designator P?
Header, 9-Pin, Dual row; LatestRevisionDate: 17-Jul-2002; LatestRevisionNote: Re-released for DXP Platform.; Publisher: Altium Limited
footprint HDR2X9_CEN (Connector; Header; 9x2 Position)
pins: 1, 2, 3, 4, 5, 6, 7, 8, 9, 10, 11, 12, 13, 14, 15, 16, 17, 18

## Header 9X2H
designator P?
Header, 9-Pin, Dual row, Right Angle; LatestRevisionDate: 17-Jul-2002; LatestRevisionNote: Re-released for DXP Platform.; Publisher: Altium Limited
footprint HDR2X9H (Connector; Header; 9x2 Position; Right Angle)
pins: 1, 2, 3, 4, 5, 6, 7, 8, 9, 10, 11, 12, 13, 14, 15, 16, 17, 18

## Header 10
designator P?
Header, 10-Pin; LatestRevisionDate: 17-Jul-2002; LatestRevisionNote: Re-released for DXP Platform.; Publisher: Altium Limited
footprint HDR1X10 (Connector; Header; 10 Position)
pins: 1, 2, 3, 4, 5, 6, 7, 8, 9, 10

## Header 10H
designator P?
Header, 10-Pin, Right Angle; LatestRevisionDate: 17-Jul-2002; LatestRevisionNote: Re-released for DXP Platform.; Publisher: Altium Limited
footprint HDR1X10H (Connector; Header; 10 Position; Right Angle)
pins: 1, 2, 3, 4, 5, 6, 7, 8, 9, 10

## Header 10X2
designator P?
Header, 10-Pin, Dual row; LatestRevisionDate: 17-Jul-2002; LatestRevisionNote: Re-released for DXP Platform.; Publisher: Altium Limited
footprint HDR2X10 (Connector; Header; 10x2 Position)
pins: 1, 2, 3, 4, 5, 6, 7, 8, 9, 10, 11, 12, 13, 14, 15, 16, 17, 18, 19, 20

## Header 10X2A
designator P?
Header, 10-Pin, Dual row; LatestRevisionDate: 17-Jul-2002; LatestRevisionNote: Re-released for DXP Platform.; Publisher: Altium Limited
footprint HDR2X10_CEN (Connector; Header; 10x2 Position)
pins: 1, 2, 3, 4, 5, 6, 7, 8, 9, 10, 11, 12, 13, 14, 15, 16, 17, 18, 19, 20

## Header 10X2H
designator P?
Header, 10-Pin, Dual row, Right Angle; LatestRevisionDate: 17-Jul-2002; LatestRevisionNote: Re-released for DXP Platform.; Publisher: Altium Limited
footprint HDR2X10H (Connector; Header; 10x2 Position; Right Angle)
pins: 1, 2, 3, 4, 5, 6, 7, 8, 9, 10, 11, 12, 13, 14, 15, 16, 17, 18, 19, 20

## Header 11
designator P?
Header, 11-Pin; LatestRevisionDate: 17-Jul-2002; LatestRevisionNote: Re-released for DXP Platform.; Publisher: Altium Limited
footprint HDR1X11 (Connector; Header; 11 Position)
pins: 1, 2, 3, 4, 5, 6, 7, 8, 9, 10, 11

## Header 11H
designator P?
Header, 11-Pin, Right Angle; LatestRevisionDate: 17-Jul-2002; LatestRevisionNote: Re-released for DXP Platform.; Publisher: Altium Limited
footprint HDR1X11H (Connector; Header; 11 Position; Right Angle)
pins: 1, 2, 3, 4, 5, 6, 7, 8, 9, 10, 11

## Header 11X2
designator P?
Header, 11-Pin, Dual row; LatestRevisionDate: 17-Jul-2002; LatestRevisionNote: Re-released for DXP Platform.; Publisher: Altium Limited
footprint HDR2X11 (Connector; Header; 11x2 Position)
pins: 1, 2, 3, 4, 5, 6, 7, 8, 9, 10, 11, 12, 13, 14, 15, 16, 17, 18, 19, 20, 21, 22

## Header 11X2A
designator P?
Header, 11-Pin, Dual row; LatestRevisionDate: 17-Jul-2002; LatestRevisionNote: Re-released for DXP Platform.; Publisher: Altium Limited
footprint HDR2X11_CEN (Connector; Header; 11x2 Position)
pins: 1, 2, 3, 4, 5, 6, 7, 8, 9, 10, 11, 12, 13, 14, 15, 16, 17, 18, 19, 20, 21, 22

## Header 11X2H
designator P?
Header, 11-Pin, Dual row, Right Angle; LatestRevisionDate: 17-Jul-2002; LatestRevisionNote: Re-released for DXP Platform.; Publisher: Altium Limited
footprint HDR2X11H (Connector; Header; 11x2 Position; Right Angle)
pins: 1, 2, 3, 4, 5, 6, 7, 8, 9, 10, 11, 12, 13, 14, 15, 16, 17, 18, 19, 20, 21, 22

## Header 12
designator P?
Header, 12-Pin; LatestRevisionDate: 17-Jul-2002; LatestRevisionNote: Re-released for DXP Platform.; Publisher: Altium Limited
footprint HDR1X12 (Connector; Header; 12 Position)
pins: 1, 2, 3, 4, 5, 6, 7, 8, 9, 10, 11, 12

## Header 12H
designator P?
Header, 12-Pin, Right Angle; LatestRevisionDate: 17-Jul-2002; LatestRevisionNote: Re-released for DXP Platform.; Publisher: Altium Limited
footprint HDR1X12H (Connector; Header; 12 Position; Right Angle)
pins: 1, 2, 3, 4, 5, 6, 7, 8, 9, 10, 11, 12

## Header 12X2
designator P?
Header, 12-Pin, Dual row; LatestRevisionDate: 17-Jul-2002; LatestRevisionNote: Re-released for DXP Platform.; Publisher: Altium Limited
footprint HDR2X12 (Connector; Header; 12x2 Position)
pins: 1, 2, 3, 4, 5, 6, 7, 8, 9, 10, 11, 12, 13, 14, 15, 16, 17, 18, 19, 20, 21, 22, 23, 24

## Header 12X2A
designator P?
Header, 12-Pin, Dual row; LatestRevisionDate: 17-Jul-2002; LatestRevisionNote: Re-released for DXP Platform.; Publisher: Altium Limited
footprint HDR2X12_CEN (Connector; Header; 12x2 Position)
pins: 1, 2, 3, 4, 5, 6, 7, 8, 9, 10, 11, 12, 13, 14, 15, 16, 17, 18, 19, 20, 21, 22, 23, 24

## Header 12X2H
designator P?
Header, 12-Pin, Dual row, Right Angle; LatestRevisionDate: 17-Jul-2002; LatestRevisionNote: Re-released for DXP Platform.; Publisher: Altium Limited
footprint HDR2X12H (Connector; Header; 12x2 Position; Right Angle)
pins: 1, 2, 3, 4, 5, 6, 7, 8, 9, 10, 11, 12, 13, 14, 15, 16, 17, 18, 19, 20, 21, 22, 23, 24

## Header 13
designator P?
Header, 13-Pin; LatestRevisionDate: 17-Jul-2002; LatestRevisionNote: Re-released for DXP Platform.; Publisher: Altium Limited
footprint HDR1X13 (Connector; Header; 13 Position)
pins: 1, 2, 3, 4, 5, 6, 7, 8, 9, 10, 11, 12, 13

## Header 13H
designator P?
Header, 13-Pin, Right Angle; LatestRevisionDate: 17-Jul-2002; LatestRevisionNote: Re-released for DXP Platform.; Publisher: Altium Limited
footprint HDR1X13H (Connector; Header; 13 Position; Right Angle)
pins: 1, 2, 3, 4, 5, 6, 7, 8, 9, 10, 11, 12, 13

## Header 13X2
designator P?
Header, 13-Pin, Dual row; LatestRevisionDate: 17-Jul-2002; LatestRevisionNote: Re-released for DXP Platform.; Publisher: Altium Limited
footprint HDR2X13 (Connector; Header; 13x2 Position)
pins: 1, 2, 3, 4, 5, 6, 7, 8, 9, 10, 11, 12, 13, 14, 15, 16, 17, 18, 19, 20, 21, 22, 23, 24, 25, 26

## Header 13X2A
designator P?
Header, 13-Pin, Dual row; LatestRevisionDate: 17-Jul-2002; LatestRevisionNote: Re-released for DXP Platform.; Publisher: Altium Limited
footprint HDR2X13_CEN (Connector; Header; 13x2 Position)
pins: 1, 2, 3, 4, 5, 6, 7, 8, 9, 10, 11, 12, 13, 14, 15, 16, 17, 18, 19, 20, 21, 22, 23, 24, 25, 26

## Header 13X2H
designator P?
Header, 13-Pin, Dual row, Right Angle; LatestRevisionDate: 17-Jul-2002; LatestRevisionNote: Re-released for DXP Platform.; Publisher: Altium Limited
footprint HDR2X13H (Connector; Header; 13x2 Position; Right Angle)
pins: 1, 2, 3, 4, 5, 6, 7, 8, 9, 10, 11, 12, 13, 14, 15, 16, 17, 18, 19, 20, 21, 22, 23, 24, 25, 26

## Header 14
designator P?
Header, 14-Pin; LatestRevisionDate: 17-Jul-2002; LatestRevisionNote: Re-released for DXP Platform.; Publisher: Altium Limited
footprint HDR1X14 (Connector; Header; 14 Position)
pins: 1, 2, 3, 4, 5, 6, 7, 8, 9, 10, 11, 12, 13, 14

## Header 14H
designator P?
Header, 14-Pin, Right Angle; LatestRevisionDate: 17-Jul-2002; LatestRevisionNote: Re-released for DXP Platform.; Publisher: Altium Limited
footprint HDR1X14H (Connector; Header; 14 Position; Right Angle)
pins: 1, 2, 3, 4, 5, 6, 7, 8, 9, 10, 11, 12, 13, 14

## Header 14X2
designator P?
Header, 14-Pin, Dual row; LatestRevisionDate: 17-Jul-2002; LatestRevisionNote: Re-released for DXP Platform.; Publisher: Altium Limited
footprint HDR2X14 (Connector; Header; 14x2 Position)
pins: 1, 2, 3, 4, 5, 6, 7, 8, 9, 10, 11, 12, 13, 14, 15, 16, 17, 18, 19, 20, 21, 22, 23, 24, 25, 26, 27, 28

## Header 14X2A
designator P?
Header, 14-Pin, Dual row; LatestRevisionDate: 17-Jul-2002; LatestRevisionNote: Re-released for DXP Platform.; Publisher: Altium Limited
footprint HDR2X14_CEN (Connector; Header; 14x2 Position)
pins: 1, 2, 3, 4, 5, 6, 7, 8, 9, 10, 11, 12, 13, 14, 15, 16, 17, 18, 19, 20, 21, 22, 23, 24, 25, 26, 27, 28

## Header 14X2H
designator P?
Header, 14-Pin, Dual row, Right Angle; LatestRevisionDate: 17-Jul-2002; LatestRevisionNote: Re-released for DXP Platform.; Publisher: Altium Limited
footprint HDR2X14H (Connector; Header; 14x2 Position; Right Angle)
pins: 1, 2, 3, 4, 5, 6, 7, 8, 9, 10, 11, 12, 13, 14, 15, 16, 17, 18, 19, 20, 21, 22, 23, 24, 25, 26, 27, 28

## Header 15
designator P?
Header, 15-Pin; LatestRevisionDate: 17-Jul-2002; LatestRevisionNote: Re-released for DXP Platform.; Publisher: Altium Limited
footprint HDR1X15 (Connector; Header; 15 Position)
pins: 1, 2, 3, 4, 5, 6, 7, 8, 9, 10, 11, 12, 13, 14, 15

## Header 15H
designator P?
Header, 15-Pin, Right Angle; LatestRevisionDate: 17-Jul-2002; LatestRevisionNote: Re-released for DXP Platform.; Publisher: Altium Limited
footprint HDR1X15H (Connector; Header; 15 Position; Right Angle)
pins: 1, 2, 3, 4, 5, 6, 7, 8, 9, 10, 11, 12, 13, 14, 15

## Header 15X2
designator P?
Header, 15-Pin, Dual row; LatestRevisionDate: 17-Jul-2002; LatestRevisionNote: Re-released for DXP Platform.; Publisher: Altium Limited
footprint HDR2X15 (Connector; Header; 15x2 Position)
pins: 1, 2, 3, 4, 5, 6, 7, 8, 9, 10, 11, 12, 13, 14, 15, 16, 17, 18, 19, 20, 21, 22, 23, 24, 25, 26, 27, 28, 29, 30

## Header 15X2A
designator P?
Header, 15-Pin, Dual row; LatestRevisionDate: 17-Jul-2002; LatestRevisionNote: Re-released for DXP Platform.; Publisher: Altium Limited
footprint HDR2X15_CEN (Connector; Header; 15x2 Position)
pins: 1, 2, 3, 4, 5, 6, 7, 8, 9, 10, 11, 12, 13, 14, 15, 16, 17, 18, 19, 20, 21, 22, 23, 24, 25, 26, 27, 28, 29, 30

## Header 15X2H
designator P?
Header, 15-Pin, Dual row, Right Angle; LatestRevisionDate: 17-Jul-2002; LatestRevisionNote: Re-released for DXP Platform.; Publisher: Altium Limited
footprint HDR2X15H (Connector; Header; 15x2 Position; Right Angle)
pins: 1, 2, 3, 4, 5, 6, 7, 8, 9, 10, 11, 12, 13, 14, 15, 16, 17, 18, 19, 20, 21, 22, 23, 24, 25, 26, 27, 28, 29, 30

## Header 16
designator P?
Header, 16-Pin; LatestRevisionDate: 17-Jul-2002; LatestRevisionNote: Re-released for DXP Platform.; Publisher: Altium Limited
footprint HDR1X16 (Connector; Header; 16 Position)
pins: 1, 2, 3, 4, 5, 6, 7, 8, 9, 10, 11, 12, 13, 14, 15, 16

## Header 16H
designator P?
Header, 16-Pin, Right Angle; LatestRevisionDate: 17-Jul-2002; LatestRevisionNote: Re-released for DXP Platform.; Publisher: Altium Limited
footprint HDR1X16H (Connector; Header; 16 Position; Right Angle)
pins: 1, 2, 3, 4, 5, 6, 7, 8, 9, 10, 11, 12, 13, 14, 15, 16

## Header 16X2
designator P?
Header, 16-Pin, Dual row; LatestRevisionDate: 17-Jul-2002; LatestRevisionNote: Re-released for DXP Platform.; Publisher: Altium Limited
footprint HDR2X16 (Connector; Header; 16x2 Position)
pins: 1, 2, 3, 4, 5, 6, 7, 8, 9, 10, 11, 12, 13, 14, 15, 16, 17, 18, 19, 20, 21, 22, 23, 24, 25, 26, 27, 28, 29, 30, 31, 32

## Header 16X2A
designator P?
Header, 16-Pin, Dual row; LatestRevisionDate: 17-Jul-2002; LatestRevisionNote: Re-released for DXP Platform.; Publisher: Altium Limited
footprint HDR2X16_CEN (Connector; Header; 16x2 Position)
pins: 1, 2, 3, 4, 5, 6, 7, 8, 9, 10, 11, 12, 13, 14, 15, 16, 17, 18, 19, 20, 21, 22, 23, 24, 25, 26, 27, 28, 29, 30, 31, 32

## Header 16X2H
designator P?
Header, 16-Pin, Dual row, Right Angle; LatestRevisionDate: 17-Jul-2002; LatestRevisionNote: Re-released for DXP Platform.; Publisher: Altium Limited
footprint HDR2X16H (Connector; Header; 16x2 Position; Right Angle)
pins: 1, 2, 3, 4, 5, 6, 7, 8, 9, 10, 11, 12, 13, 14, 15, 16, 17, 18, 19, 20, 21, 22, 23, 24, 25, 26, 27, 28, 29, 30, 31, 32

## Header 17
designator P?
Header, 17-Pin; LatestRevisionDate: 17-Jul-2002; LatestRevisionNote: Re-released for DXP Platform.; Publisher: Altium Limited
footprint HDR1X17 (Connector; Header; 17 Position)
pins: 1, 2, 3, 4, 5, 6, 7, 8, 9, 10, 11, 12, 13, 14, 15, 16, 17

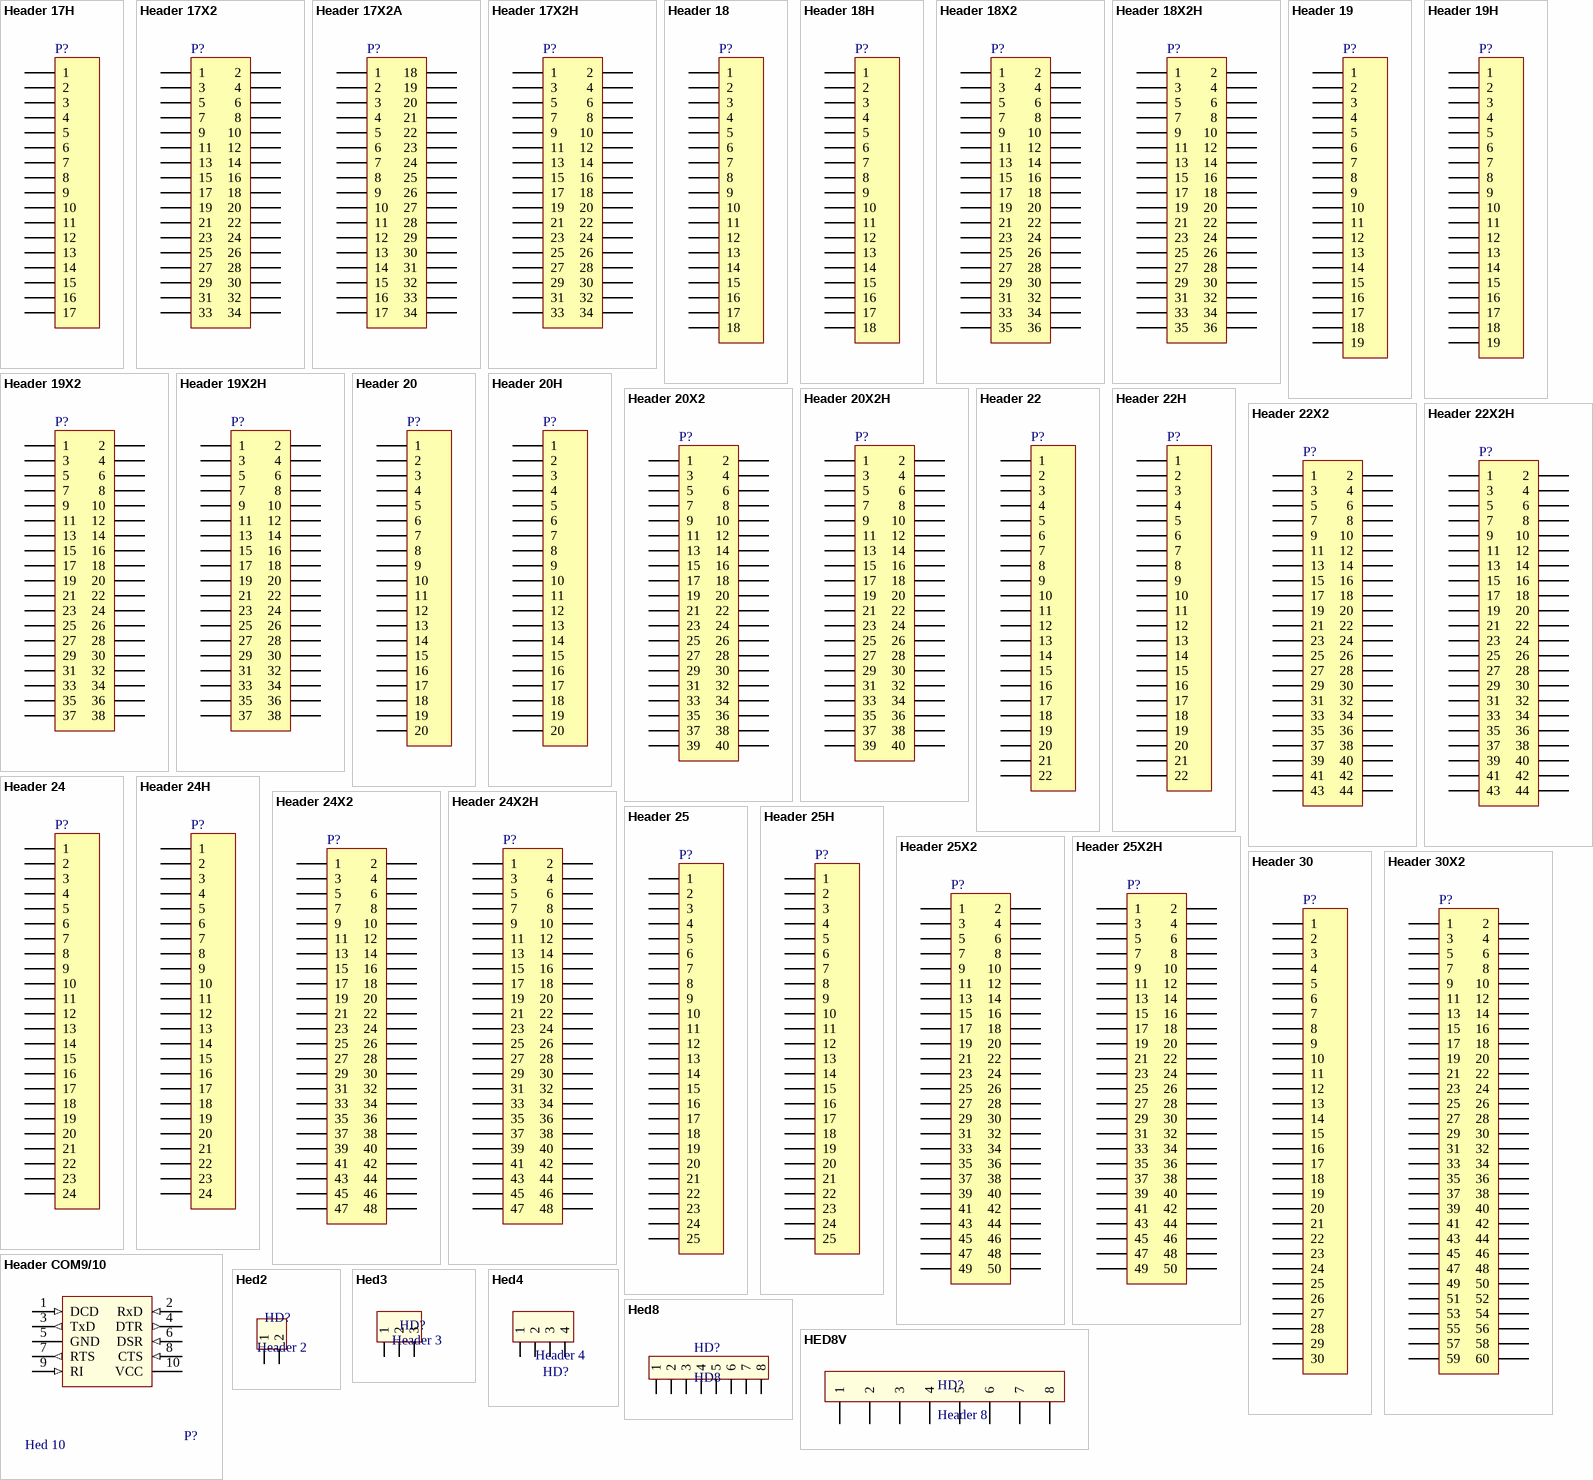
[diagram p9: symbols Header 17H to HED8V]

## Header 17H
designator P?
Header, 17-Pin, Right Angle; LatestRevisionDate: 17-Jul-2002; LatestRevisionNote: Re-released for DXP Platform.; Publisher: Altium Limited
footprint HDR1X17H (Connector; Header; 17 Position; Right Angle)
pins: 1, 2, 3, 4, 5, 6, 7, 8, 9, 10, 11, 12, 13, 14, 15, 16, 17

## Header 17X2
designator P?
Header, 17-Pin, Dual row; LatestRevisionDate: 17-Jul-2002; LatestRevisionNote: Re-released for DXP Platform.; Publisher: Altium Limited
footprint HDR2X17 (Connector; Header; 17x2 Position)
pins: 1, 2, 3, 4, 5, 6, 7, 8, 9, 10, 11, 12, 13, 14, 15, 16, 17, 18, 19, 20, 21, 22, 23, 24, 25, 26, 27, 28, 29, 30, 31, 32, 33, 34

## Header 17X2A
designator P?
Header, 17-Pin, Dual row; LatestRevisionDate: 17-Jul-2002; LatestRevisionNote: Re-released for DXP Platform.; Publisher: Altium Limited
footprint HDR2X17_CEN (Connector; Header; 17x2 Position)
pins: 1, 2, 3, 4, 5, 6, 7, 8, 9, 10, 11, 12, 13, 14, 15, 16, 17, 18, 19, 20, 21, 22, 23, 24, 25, 26, 27, 28, 29, 30, 31, 32, 33, 34

## Header 17X2H
designator P?
Header, 17-Pin, Dual row, Right Angle; LatestRevisionDate: 17-Jul-2002; LatestRevisionNote: Re-released for DXP Platform.; Publisher: Altium Limited
footprint HDR2X17H (Connector; Header; 17x2 Position; Right Angle)
pins: 1, 2, 3, 4, 5, 6, 7, 8, 9, 10, 11, 12, 13, 14, 15, 16, 17, 18, 19, 20, 21, 22, 23, 24, 25, 26, 27, 28, 29, 30, 31, 32, 33, 34

## Header 18
designator P?
Header, 18-Pin; LatestRevisionDate: 17-Jul-2002; LatestRevisionNote: Re-released for DXP Platform.; Publisher: Altium Limited
footprint HDR1X18 (Connector; Header; 18 Position)
pins: 1, 2, 3, 4, 5, 6, 7, 8, 9, 10, 11, 12, 13, 14, 15, 16, 17, 18

## Header 18H
designator P?
Header, 18-Pin, Right Angle; LatestRevisionDate: 17-Jul-2002; LatestRevisionNote: Re-released for DXP Platform.; Publisher: Altium Limited
footprint HDR1X18H (Connector; Header; 18 Position; Right Angle)
pins: 1, 2, 3, 4, 5, 6, 7, 8, 9, 10, 11, 12, 13, 14, 15, 16, 17, 18

## Header 18X2
designator P?
Header, 18-Pin, Dual row; LatestRevisionDate: 17-Jul-2002; LatestRevisionNote: Re-released for DXP Platform.; Publisher: Altium Limited
footprint HDR2X18 (Connector; Header; 18x2 Position)
pins: 1, 2, 3, 4, 5, 6, 7, 8, 9, 10, 11, 12, 13, 14, 15, 16, 17, 18, 19, 20, 21, 22, 23, 24, 25, 26, 27, 28, 29, 30, 31, 32, 33, 34, 35, 36

## Header 18X2H
designator P?
Header, 18-Pin, Dual row, Right Angle; LatestRevisionDate: 17-Jul-2002; LatestRevisionNote: Re-released for DXP Platform.; Publisher: Altium Limited
footprint HDR2X18H (Connector; Header; 18x2 Position; Right Angle)
pins: 1, 2, 3, 4, 5, 6, 7, 8, 9, 10, 11, 12, 13, 14, 15, 16, 17, 18, 19, 20, 21, 22, 23, 24, 25, 26, 27, 28, 29, 30, 31, 32, 33, 34, 35, 36

## Header 19
designator P?
Header, 19-Pin; LatestRevisionDate: 17-Jul-2002; LatestRevisionNote: Re-released for DXP Platform.; Publisher: Altium Limited
footprint HDR1X19 (Connector; Header; 19 Position)
pins: 1, 2, 3, 4, 5, 6, 7, 8, 9, 10, 11, 12, 13, 14, 15, 16, 17, 18, 19

## Header 19H
designator P?
Header, 19-Pin, Right Angle; LatestRevisionDate: 17-Jul-2002; LatestRevisionNote: Re-released for DXP Platform.; Publisher: Altium Limited
footprint HDR1X19H (Connector; Header; 19 Position; Right Angle)
pins: 1, 2, 3, 4, 5, 6, 7, 8, 9, 10, 11, 12, 13, 14, 15, 16, 17, 18, 19

## Header 19X2
designator P?
Header, 19-Pin, Dual row; LatestRevisionDate: 17-Jul-2002; LatestRevisionNote: Re-released for DXP Platform.; Publisher: Altium Limited
footprint HDR2X19 (Connector; Header; 19x2 Position)
pins: 1, 2, 3, 4, 5, 6, 7, 8, 9, 10, 11, 12, 13, 14, 15, 16, 17, 18, 19, 20, 21, 22, 23, 24, 25, 26, 27, 28, 29, 30, 31, 32, 33, 34, 35, 36, 37, 38

## Header 19X2H
designator P?
Header, 19-Pin, Dual row, Right Angle; LatestRevisionDate: 17-Jul-2002; LatestRevisionNote: Re-released for DXP Platform.; Publisher: Altium Limited
footprint HDR2X19H (Connector; Header; 19x2 Position; Right Angle)
pins: 1, 2, 3, 4, 5, 6, 7, 8, 9, 10, 11, 12, 13, 14, 15, 16, 17, 18, 19, 20, 21, 22, 23, 24, 25, 26, 27, 28, 29, 30, 31, 32, 33, 34, 35, 36, 37, 38

## Header 20
designator P?
Header, 20-Pin; LatestRevisionDate: 17-Jul-2002; LatestRevisionNote: Re-released for DXP Platform.; Publisher: Altium Limited
footprint HDR1X20 (Connector; Header; 20 Position)
pins: 1, 2, 3, 4, 5, 6, 7, 8, 9, 10, 11, 12, 13, 14, 15, 16, 17, 18, 19, 20

## Header 20H
designator P?
Header, 20-Pin, Right Angle; LatestRevisionDate: 17-Jul-2002; LatestRevisionNote: Re-released for DXP Platform.; Publisher: Altium Limited
footprint HDR1X20H (Connector; Header; 20 Position; Right Angle)
pins: 1, 2, 3, 4, 5, 6, 7, 8, 9, 10, 11, 12, 13, 14, 15, 16, 17, 18, 19, 20

## Header 20X2
designator P?
Header, 20-Pin, Dual row; LatestRevisionDate: 17-Jul-2002; LatestRevisionNote: Re-released for DXP Platform.; Publisher: Altium Limited
footprint HDR2X20 (Connector; Header; 20x2 Position)
pins: 1, 2, 3, 4, 5, 6, 7, 8, 9, 10, 11, 12, 13, 14, 15, 16, 17, 18, 19, 20, 21, 22, 23, 24, 25, 26, 27, 28, 29, 30, 31, 32, 33, 34, 35, 36, 37, 38, 39, 40

## Header 20X2H
designator P?
Header, 20-Pin, Dual row, Right Angle; LatestRevisionDate: 17-Jul-2002; LatestRevisionNote: Re-released for DXP Platform.; Publisher: Altium Limited
footprint HDR2X20H (Connector; Header; 20x2 Position; Right Angle)
pins: 1, 2, 3, 4, 5, 6, 7, 8, 9, 10, 11, 12, 13, 14, 15, 16, 17, 18, 19, 20, 21, 22, 23, 24, 25, 26, 27, 28, 29, 30, 31, 32, 33, 34, 35, 36, 37, 38, 39, 40

## Header 22
designator P?
Header, 22-Pin; LatestRevisionDate: 17-Jul-2002; LatestRevisionNote: Re-released for DXP Platform.; Publisher: Altium Limited
footprint HDR1X22 (Connector; Header; 22 Position)
pins: 1, 2, 3, 4, 5, 6, 7, 8, 9, 10, 11, 12, 13, 14, 15, 16, 17, 18, 19, 20, 21, 22

## Header 22H
designator P?
Header, 22-Pin, Right Angle; LatestRevisionDate: 17-Jul-2002; LatestRevisionNote: Re-released for DXP Platform.; Publisher: Altium Limited
footprint HDR1X22H (Connector; Header; 22 Position; Right Angle)
pins: 1, 2, 3, 4, 5, 6, 7, 8, 9, 10, 11, 12, 13, 14, 15, 16, 17, 18, 19, 20, 21, 22

## Header 22X2
designator P?
Header, 22-Pin, Dual row; LatestRevisionDate: 17-Jul-2002; LatestRevisionNote: Re-released for DXP Platform.; Publisher: Altium Limited
footprint HDR2X22 (Connector; Header; 22x2 Position)
pins: 1, 2, 3, 4, 5, 6, 7, 8, 9, 10, 11, 12, 13, 14, 15, 16, 17, 18, 19, 20, 21, 22, 23, 24, 25, 26, 27, 28, 29, 30, 31, 32, 33, 34, 35, 36, 37, 38, 39, 40, 41, 42, 43, 44

## Header 22X2H
designator P?
Header, 22-Pin, Dual row, Right Angle; LatestRevisionDate: 17-Jul-2002; LatestRevisionNote: Re-released for DXP Platform.; Publisher: Altium Limited
footprint HDR2X22H (Connector; Header; 22x2 Position; Right Angle)
pins: 1, 2, 3, 4, 5, 6, 7, 8, 9, 10, 11, 12, 13, 14, 15, 16, 17, 18, 19, 20, 21, 22, 23, 24, 25, 26, 27, 28, 29, 30, 31, 32, 33, 34, 35, 36, 37, 38, 39, 40, 41, 42, 43, 44

## Header 24
designator P?
Header, 24-Pin; LatestRevisionDate: 17-Jul-2002; LatestRevisionNote: Re-released for DXP Platform.; Publisher: Altium Limited
footprint HDR1X24 (Connector; Header; 24 Position)
pins: 1, 2, 3, 4, 5, 6, 7, 8, 9, 10, 11, 12, 13, 14, 15, 16, 17, 18, 19, 20, 21, 22, 23, 24

## Header 24H
designator P?
Header, 24-Pin, Right Angle; LatestRevisionDate: 17-Jul-2002; LatestRevisionNote: Re-released for DXP Platform.; Publisher: Altium Limited
footprint HDR1X24H (Connector; Header; 24 Position; Right Angle)
pins: 1, 2, 3, 4, 5, 6, 7, 8, 9, 10, 11, 12, 13, 14, 15, 16, 17, 18, 19, 20, 21, 22, 23, 24

## Header 24X2
designator P?
Header, 24-Pin, Dual row; LatestRevisionDate: 17-Jul-2002; LatestRevisionNote: Re-released for DXP Platform.; Publisher: Altium Limited
footprint HDR2X24 (Connector; Header; 24x2 Position)
pins: 1, 2, 3, 4, 5, 6, 7, 8, 9, 10, 11, 12, 13, 14, 15, 16, 17, 18, 19, 20, 21, 22, 23, 24, 25, 26, 27, 28, 29, 30, 31, 32, 33, 34, 35, 36, 37, 38, 39, 40, 41, 42, 43, 44, 45, 46, 47, 48

## Header 24X2H
designator P?
Header, 24-Pin, Dual row, Right Angle; LatestRevisionDate: 17-Jul-2002; LatestRevisionNote: Re-released for DXP Platform.; Publisher: Altium Limited
footprint HDR2X24H (Connector; Header; 24x2 Position; Right Angle)
pins: 1, 2, 3, 4, 5, 6, 7, 8, 9, 10, 11, 12, 13, 14, 15, 16, 17, 18, 19, 20, 21, 22, 23, 24, 25, 26, 27, 28, 29, 30, 31, 32, 33, 34, 35, 36, 37, 38, 39, 40, 41, 42, 43, 44, 45, 46, 47, 48

## Header 25
designator P?
Header, 25-Pin; LatestRevisionDate: 17-Jul-2002; LatestRevisionNote: Re-released for DXP Platform.; Publisher: Altium Limited
footprint HDR1X25 (Connector; Header; 25 Position)
pins: 1, 2, 3, 4, 5, 6, 7, 8, 9, 10, 11, 12, 13, 14, 15, 16, 17, 18, 19, 20, 21, 22, 23, 24, 25

## Header 25H
designator P?
Header, 25-Pin, Right Angle; LatestRevisionDate: 17-Jul-2002; LatestRevisionNote: Re-released for DXP Platform.; Publisher: Altium Limited
footprint HDR1X25H (Connector; Header; 25 Position; Right Angle)
pins: 1, 2, 3, 4, 5, 6, 7, 8, 9, 10, 11, 12, 13, 14, 15, 16, 17, 18, 19, 20, 21, 22, 23, 24, 25

## Header 25X2
designator P?
Header, 25-Pin, Dual row; LatestRevisionDate: 17-Jul-2002; LatestRevisionNote: Re-released for DXP Platform.; Publisher: Altium Limited
footprint HDR2X25 (Connector; Header; 25x2 Position)
pins: 1, 2, 3, 4, 5, 6, 7, 8, 9, 10, 11, 12, 13, 14, 15, 16, 17, 18, 19, 20, 21, 22, 23, 24, 25, 26, 27, 28, 29, 30, 31, 32, 33, 34, 35, 36, 37, 38, 39, 40, 41, 42, 43, 44, 45, 46, 47, 48, 49, 50

## Header 25X2H
designator P?
Header, 25-Pin, Dual row, Right Angle; LatestRevisionDate: 17-Jul-2002; LatestRevisionNote: Re-released for DXP Platform.; Publisher: Altium Limited
footprint HDR2X25H (Connector; Header; 25x2 Position; Right Angle)
pins: 1, 2, 3, 4, 5, 6, 7, 8, 9, 10, 11, 12, 13, 14, 15, 16, 17, 18, 19, 20, 21, 22, 23, 24, 25, 26, 27, 28, 29, 30, 31, 32, 33, 34, 35, 36, 37, 38, 39, 40, 41, 42, 43, 44, 45, 46, 47, 48, 49, 50

## Header 30
designator P?
Header, 30-Pin; LatestRevisionDate: 17-Jul-2002; LatestRevisionNote: Re-released for DXP Platform.; Publisher: Altium Limited
footprint HDR1X30 (Connector; Header; 30 Position)
pins: 1, 2, 3, 4, 5, 6, 7, 8, 9, 10, 11, 12, 13, 14, 15, 16, 17, 18, 19, 20, 21, 22, 23, 24, 25, 26, 27, 28, 29, 30

## Header 30X2
designator P?
Header, 30-Pin, Dual row; LatestRevisionDate: 17-Jul-2002; LatestRevisionNote: Re-released for DXP Platform.; Publisher: Altium Limited
footprint HDR2X30 (Connector; Header; 30x2 Position)
pins: 1, 2, 3, 4, 5, 6, 7, 8, 9, 10, 11, 12, 13, 14, 15, 16, 17, 18, 19, 20, 21, 22, 23, 24, 25, 26, 27, 28, 29, 30, 31, 32, 33, 34, 35, 36, 37, 38, 39, 40, 41, 42, 43, 44, 45, 46, 47, 48, 49, 50, 51, 52, 53, 54, 55, 56, 57, 58, 59, 60

## Header COM9/10
designator P?, comment Hed 10
COM 9/10; PackageDocument: O; Positions: 9; Gender: Receptacle; Value: COM 9; Published: 15-Jun-2001; LatestRevisionDate: 17-Jul-2002; LatestRevisionNote: Re-released for DXP Platform.; DatasheetDocument: 1-Sep-1999; PackageReference: 788750; Publisher: Altium Limited; Orientation: Right Angle
footprint DSB 9-F (COM FMALE - D Subminiature; 9 Position; Right Angle; Pitch 1.385 mm)
signal-integrity model Connector
footprint DSB 9F-SM (Com 9 chan SMD,F)
pins: 1 DCD (in), 2 RxD (in), 3 TxD (out), 4 DTR (out), 5 GND (power), 6 DSR (in), 7 RTS (out), 8 CTS (in), 9 RI (in), 10 MH1 hidden, 10 VCC (power), 11 MH2 hidden

## Hed2
designator HD?, comment Header 2
Header 2 (Green); Value: Header 2
footprint HED2 (Header 2, 2 pin, hight 300mil, Pin to Pin 200, Colour Green)
footprint HED2T (Header 2, 2 pin, hight 300mil, Pin to Pin 200, Colour Green)
footprint HED2B (Header 2, 2 pin, hight 300mil, Pin to Pin 150, Colour White)
pins: 1, 2

## Hed3
designator HD?, comment Header 3
Header 3 (Green); Value: Header 3
footprint HED3 (Header 3, 3 pin, hight 300mil, Pin to Pin 200, Colour Green)
footprint HED3T (Header 3, 3 pin, hight 300mil, Pin to Pin 200, Colour Green)
footprint HED3B (Header 3, 3 pin, hight 300mil, Pin to Pin 150, Colour White)
pins: 1, 2, 3

## Hed4
designator HD?, comment Header 4
Header 4 (Green); Value: Header 4
footprint HED4 (Header 4, 4 pin, hight 300mil, Pin to Pin 200, Colour Green)
footprint HED4T (Header 4, 4 pin, hight 300mil, Pin to Pin 200, Colour Green)
footprint HED4B (Header 4, 4 pin, hight 300mil, Pin to Pin 150, Colour White)
pins: 1, 2, 3, 4

## Hed8
designator HD?, comment HD8
Hedear 8; Creat by: VanDungEvn@Gmail.com
footprint HED8 (CON8)
pins: 1, 2, 3, 4, 5, 6, 7, 8

## HED8V
designator HD?, comment Header 8
Header 8 Vit Broad
footprint HED8V (Header 6)
pins: 1, 2, 3, 4, 5, 6, 7, 8

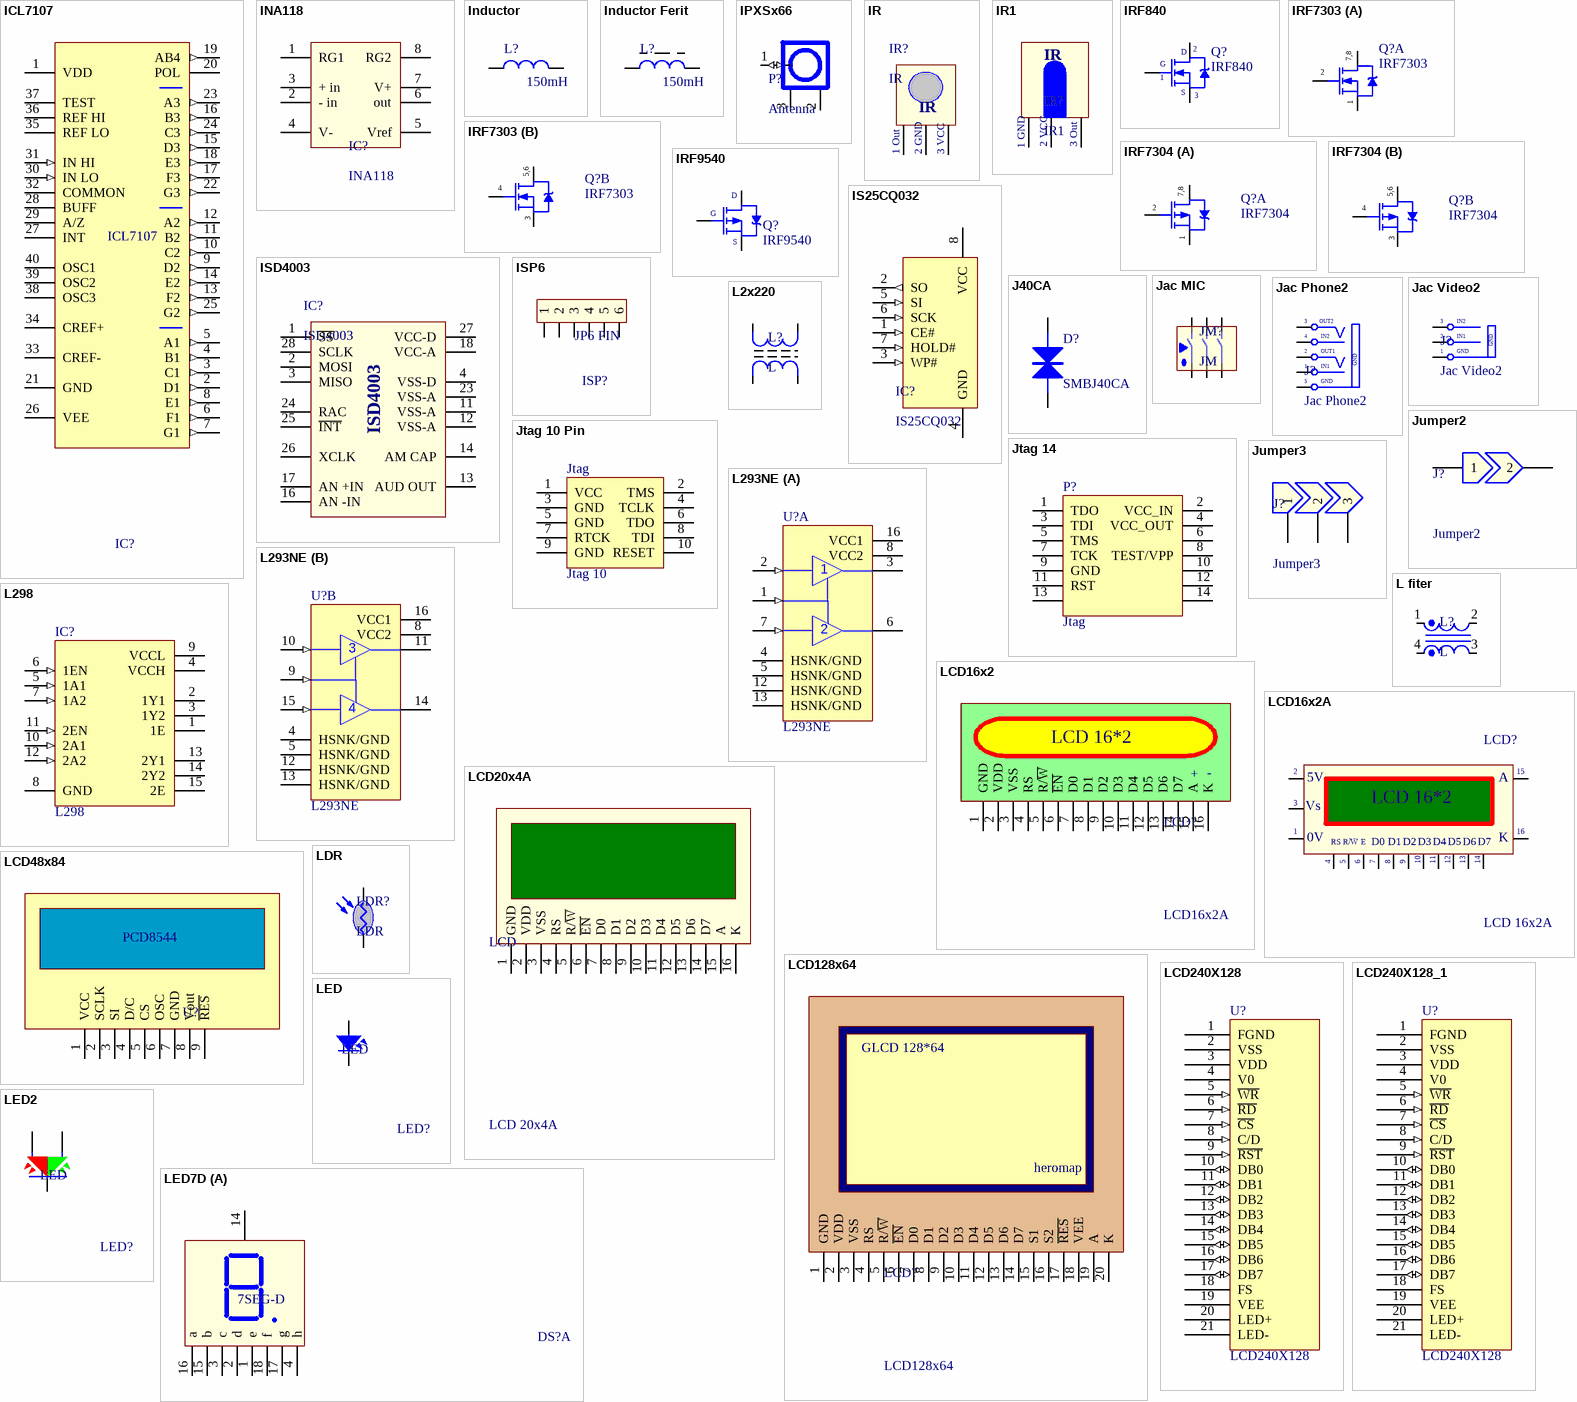
[diagram p10: symbols ICL7107 to LED7D]

## ICL7107
designator IC?
Dipslay voltage 0 - 1999; Value: ICL7107
footprint DIP40/W0.6 (40 PIN, W 600mil, Pin to pin 100mil)
pins: 1 VDD (power), 2 D1 (out), 3 C1 (out), 4 B1 (out), 5 A1 (out), 6 F1 (out), 7 G1 (out), 8 E1 (out), 9 D2 (out), 10 C2 (out), 11 B2 (out), 12 A2 (out), 13 F2 (out), 14 E2 (out), 15 D3 (out), 16 B3 (out), 17 F3 (out), 18 E3 (out), 19 AB4 (out), 20 POL, 21 GND (power), 22 G3 (out), 23 A3 (out), 24 C3 (out), 25 G2 (out), 26 VEE (power), 27 INT, 28 BUFF, 29 A/Z, 30 IN LO (in), 31 IN HI (in), 32 COMMON, 33 CREF-, 34 CREF+, 35 REF LO, 36 REF HI, 37 TEST, 38 OSC3, 39 OSC2, 40 OSC1

## INA118
designator IC?
Precision, Low Power  INSTRUMENTATION AMPLIFIER; Designed by: VanDungEvn; Value: INA118
footprint DIP8/W0.3 (8 PIN, W 300mil, Pin to pin 100mil)
pins: 1 RG1, 2 - in, 3 + in, 4 V-, 5 Vref, 6 out, 7 V+, 8 RG2

## Inductor
designator L?, comment 150mH
Inductor; Value: 150 mH
footprint L/0.4 (Inductor , 2 Pin, L 350mil, W 150 mil)
footprint L01 (Inductor)
footprint XL
pins: 1, 2

## Inductor Ferit
designator L?, comment 150mH
Inductor; Value: 150 mH
footprint L/0.4 (Inductor , 2 Pin, L 350mil, W 150 mil)
footprint L01 (Inductor)
footprint XL
pins: 1, 2

## IPXSx66
designator P?, comment Antenna
Antenna GSM GPS
footprint IPXS (SOT 23 _ 1-3-2)
pins: 1 (io), 2, 3

## IR
designator IR?
Receiver Infraed IC
footprint IR (Receiver Infared IC)
pins: 1 Out, 2 GND, 3 VCC
text: 1 Out; 2 GND; 3 VCC

## IR1
designator IR?
Receiver Infraed IC
footprint IR2 (Receiver Infared IC)
pins: 1 Out, 2 GND, 3 VCC
text: IR; 1 GND; 2 VCC; 3 Out

## IRF840
designator Q?
MOSFET N - CHANNEL 500V - 0.75 - 8A - TO-220; Value: IRF840
footprint QTO-220 (TO-220 - 1-2-3)
pins: 1 G, 2 D, 3 S